# Altium integrated library Motorola Microcontroller 8-Bit.IntLib: 909 symbols (part 11 of 31)
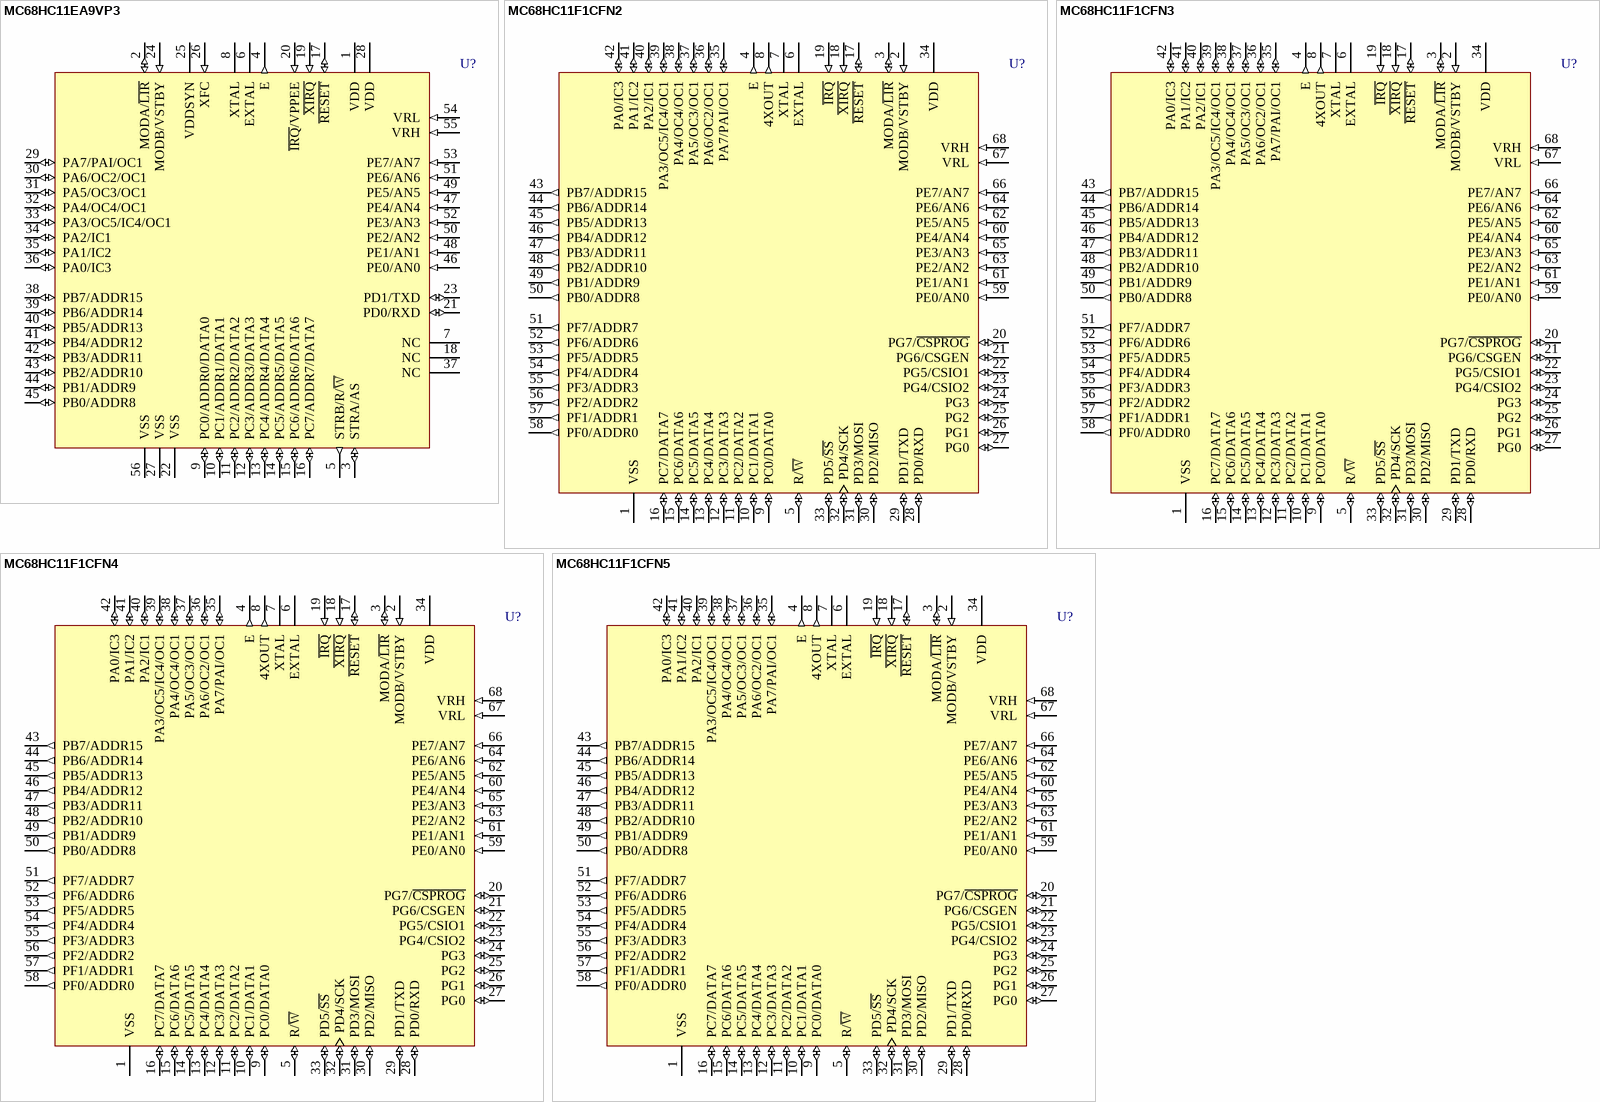
[diagram p123: symbols MC68HC11EA9VP3 to MC68HC11F1CFN5]

## MC68HC11F1CFN2
designator U?
8-Bit Microcontroller; Published: 17-Jan-2003; LatestRevisionDate: 13-Apr-2006; LatestRevisionNote: IPC-7351 Footprint Added.; DatasheetVersion: 10-Jan-1997; PackageVersion: 2001; PackageReference: 779-02; Publisher: Altium Limited; PackageDescription: 68-Pin Leaded Chip Carrier 1.27 mm Pitch; ComponentLink1Description: Manufacturer Link; ComponentLink1URL: http://www.freescale.com/
footprint 779-02_N (Leaded Chip Carrier, 68-Leads, Body 24.2x24.2mm, Pitch 1.27mm, IPC Medium Density)
footprint 779-02_L (Leaded Chip Carrier, 68-Leads, Body 24.2x24.2mm, Pitch 1.27mm, IPC High Density)
footprint 779-02_M (Leaded Chip Carrier, 68-Leads, Body 24.2x24.2mm, Pitch 1.27mm, IPC Low Density)
3D model MC68HC11-779-02 (68-Pin Leaded Chip Carrier 1.27 mm Pitch)
pins: 1 VSS (power), 2 MODB/VSTBY (in), 3 MODA/~{LIR} (io), 4 E (out), 5 R/~{W} (io), 6 EXTAL, 7 XTAL, 8 4XOUT (out), 9 PC0/DATA0 (io), 10 PC1/DATA1 (io), 11 PC2/DATA2 (io), 12 PC3/DATA3 (io), 13 PC4/DATA4 (io), 14 PC5/DATA5 (io), 15 PC6/DATA6 (io), 16 PC7/DATA7 (io), 17 ~{RESET} (io), 18 ~{XIRQ} (in), 19 ~{IRQ} (in), 20 PG7/~{CSPROG} (io), 21 PG6/CSGEN (io), 22 PG5/CSIO1 (io), 23 PG4/CSIO2 (io), 24 PG3 (io), 25 PG2 (io), 26 PG1 (io), 27 PG0 (io), 28 PD0/RXD (io), 29 PD1/TXD (io), 30 PD2/MISO (io), 31 PD3/MOSI (io), 32 PD4/SCK (io), 33 PD5/~{SS} (io), 34 VDD (power), 35 PA7/PAI/OC1 (io), 36 PA6/OC2/OC1 (io), 37 PA5/OC3/OC1 (io), 38 PA4/OC4/OC1 (io), 39 PA3/OC5/IC4/OC1 (io), 40 PA2/IC1 (io), 41 PA1/IC2 (io), 42 PA0/IC3 (io), 43 PB7/ADDR15 (out), 44 PB6/ADDR14 (out), 45 PB5/ADDR13 (out), 46 PB4/ADDR12 (out), 47 PB3/ADDR11 (out), 48 PB2/ADDR10 (out), 49 PB1/ADDR9 (out), 50 PB0/ADDR8 (out), 51 PF7/ADDR7 (out), 52 PF6/ADDR6 (out), 53 PF5/ADDR5 (out), 54 PF4/ADDR4 (out), 55 PF3/ADDR3 (out), 56 PF2/ADDR2 (out), 57 PF1/ADDR1 (out), 58 PF0/ADDR0 (out), 59 PE0/AN0 (in), 60 PE4/AN4 (in), 61 PE1/AN1 (in), 62 PE5/AN5 (in), 63 PE2/AN2 (in), 64 PE6/AN6 (in), 65 PE3/AN3 (in), 66 PE7/AN7 (in), 67 VRL (in), 68 VRH (in)

## MC68HC11F1CFN3
designator U?
8-Bit Microcontroller; Published: 17-Jan-2003; LatestRevisionDate: 13-Apr-2006; LatestRevisionNote: IPC-7351 Footprint Added.; DatasheetVersion: 10-Jan-1997; PackageVersion: 2001; PackageReference: 779-02; Publisher: Altium Limited; PackageDescription: 68-Pin Leaded Chip Carrier 1.27 mm Pitch; ComponentLink1Description: Manufacturer Link; ComponentLink1URL: http://www.freescale.com/
footprint 779-02_N (Leaded Chip Carrier, 68-Leads, Body 24.2x24.2mm, Pitch 1.27mm, IPC Medium Density)
footprint 779-02_L (Leaded Chip Carrier, 68-Leads, Body 24.2x24.2mm, Pitch 1.27mm, IPC High Density)
footprint 779-02_M (Leaded Chip Carrier, 68-Leads, Body 24.2x24.2mm, Pitch 1.27mm, IPC Low Density)
3D model MC68HC11-779-02 (68-Pin Leaded Chip Carrier 1.27 mm Pitch)
pins: 1 VSS (power), 2 MODB/VSTBY (in), 3 MODA/~{LIR} (io), 4 E (out), 5 R/~{W} (io), 6 EXTAL, 7 XTAL, 8 4XOUT (out), 9 PC0/DATA0 (io), 10 PC1/DATA1 (io), 11 PC2/DATA2 (io), 12 PC3/DATA3 (io), 13 PC4/DATA4 (io), 14 PC5/DATA5 (io), 15 PC6/DATA6 (io), 16 PC7/DATA7 (io), 17 ~{RESET} (io), 18 ~{XIRQ} (in), 19 ~{IRQ} (in), 20 PG7/~{CSPROG} (io), 21 PG6/CSGEN (io), 22 PG5/CSIO1 (io), 23 PG4/CSIO2 (io), 24 PG3 (io), 25 PG2 (io), 26 PG1 (io), 27 PG0 (io), 28 PD0/RXD (io), 29 PD1/TXD (io), 30 PD2/MISO (io), 31 PD3/MOSI (io), 32 PD4/SCK (io), 33 PD5/~{SS} (io), 34 VDD (power), 35 PA7/PAI/OC1 (io), 36 PA6/OC2/OC1 (io), 37 PA5/OC3/OC1 (io), 38 PA4/OC4/OC1 (io), 39 PA3/OC5/IC4/OC1 (io), 40 PA2/IC1 (io), 41 PA1/IC2 (io), 42 PA0/IC3 (io), 43 PB7/ADDR15 (out), 44 PB6/ADDR14 (out), 45 PB5/ADDR13 (out), 46 PB4/ADDR12 (out), 47 PB3/ADDR11 (out), 48 PB2/ADDR10 (out), 49 PB1/ADDR9 (out), 50 PB0/ADDR8 (out), 51 PF7/ADDR7 (out), 52 PF6/ADDR6 (out), 53 PF5/ADDR5 (out), 54 PF4/ADDR4 (out), 55 PF3/ADDR3 (out), 56 PF2/ADDR2 (out), 57 PF1/ADDR1 (out), 58 PF0/ADDR0 (out), 59 PE0/AN0 (in), 60 PE4/AN4 (in), 61 PE1/AN1 (in), 62 PE5/AN5 (in), 63 PE2/AN2 (in), 64 PE6/AN6 (in), 65 PE3/AN3 (in), 66 PE7/AN7 (in), 67 VRL (in), 68 VRH (in)

## MC68HC11F1CFN4
designator U?
8-Bit Microcontroller; Published: 17-Jan-2003; LatestRevisionDate: 13-Apr-2006; LatestRevisionNote: IPC-7351 Footprint Added.; DatasheetVersion: 10-Jan-1997; PackageVersion: 2001; PackageReference: 779-02; Publisher: Altium Limited; PackageDescription: 68-Pin Leaded Chip Carrier 1.27 mm Pitch; ComponentLink1Description: Manufacturer Link; ComponentLink1URL: http://www.freescale.com/
footprint 779-02_N (Leaded Chip Carrier, 68-Leads, Body 24.2x24.2mm, Pitch 1.27mm, IPC Medium Density)
footprint 779-02_L (Leaded Chip Carrier, 68-Leads, Body 24.2x24.2mm, Pitch 1.27mm, IPC High Density)
footprint 779-02_M (Leaded Chip Carrier, 68-Leads, Body 24.2x24.2mm, Pitch 1.27mm, IPC Low Density)
3D model MC68HC11-779-02 (68-Pin Leaded Chip Carrier 1.27 mm Pitch)
pins: 1 VSS (power), 2 MODB/VSTBY (in), 3 MODA/~{LIR} (io), 4 E (out), 5 R/~{W} (io), 6 EXTAL, 7 XTAL, 8 4XOUT (out), 9 PC0/DATA0 (io), 10 PC1/DATA1 (io), 11 PC2/DATA2 (io), 12 PC3/DATA3 (io), 13 PC4/DATA4 (io), 14 PC5/DATA5 (io), 15 PC6/DATA6 (io), 16 PC7/DATA7 (io), 17 ~{RESET} (io), 18 ~{XIRQ} (in), 19 ~{IRQ} (in), 20 PG7/~{CSPROG} (io), 21 PG6/CSGEN (io), 22 PG5/CSIO1 (io), 23 PG4/CSIO2 (io), 24 PG3 (io), 25 PG2 (io), 26 PG1 (io), 27 PG0 (io), 28 PD0/RXD (io), 29 PD1/TXD (io), 30 PD2/MISO (io), 31 PD3/MOSI (io), 32 PD4/SCK (io), 33 PD5/~{SS} (io), 34 VDD (power), 35 PA7/PAI/OC1 (io), 36 PA6/OC2/OC1 (io), 37 PA5/OC3/OC1 (io), 38 PA4/OC4/OC1 (io), 39 PA3/OC5/IC4/OC1 (io), 40 PA2/IC1 (io), 41 PA1/IC2 (io), 42 PA0/IC3 (io), 43 PB7/ADDR15 (out), 44 PB6/ADDR14 (out), 45 PB5/ADDR13 (out), 46 PB4/ADDR12 (out), 47 PB3/ADDR11 (out), 48 PB2/ADDR10 (out), 49 PB1/ADDR9 (out), 50 PB0/ADDR8 (out), 51 PF7/ADDR7 (out), 52 PF6/ADDR6 (out), 53 PF5/ADDR5 (out), 54 PF4/ADDR4 (out), 55 PF3/ADDR3 (out), 56 PF2/ADDR2 (out), 57 PF1/ADDR1 (out), 58 PF0/ADDR0 (out), 59 PE0/AN0 (in), 60 PE4/AN4 (in), 61 PE1/AN1 (in), 62 PE5/AN5 (in), 63 PE2/AN2 (in), 64 PE6/AN6 (in), 65 PE3/AN3 (in), 66 PE7/AN7 (in), 67 VRL (in), 68 VRH (in)

## MC68HC11F1CFN5
designator U?
8-Bit Microcontroller; Published: 17-Jan-2003; LatestRevisionDate: 13-Apr-2006; LatestRevisionNote: IPC-7351 Footprint Added.; DatasheetVersion: 10-Jan-1997; PackageVersion: 2001; PackageReference: 779-02; Publisher: Altium Limited; PackageDescription: 68-Pin Leaded Chip Carrier 1.27 mm Pitch; ComponentLink1Description: Manufacturer Link; ComponentLink1URL: http://www.freescale.com/
footprint 779-02_N (Leaded Chip Carrier, 68-Leads, Body 24.2x24.2mm, Pitch 1.27mm, IPC Medium Density)
footprint 779-02_L (Leaded Chip Carrier, 68-Leads, Body 24.2x24.2mm, Pitch 1.27mm, IPC High Density)
footprint 779-02_M (Leaded Chip Carrier, 68-Leads, Body 24.2x24.2mm, Pitch 1.27mm, IPC Low Density)
3D model MC68HC11-779-02 (68-Pin Leaded Chip Carrier 1.27 mm Pitch)
pins: 1 VSS (power), 2 MODB/VSTBY (in), 3 MODA/~{LIR} (io), 4 E (out), 5 R/~{W} (io), 6 EXTAL, 7 XTAL, 8 4XOUT (out), 9 PC0/DATA0 (io), 10 PC1/DATA1 (io), 11 PC2/DATA2 (io), 12 PC3/DATA3 (io), 13 PC4/DATA4 (io), 14 PC5/DATA5 (io), 15 PC6/DATA6 (io), 16 PC7/DATA7 (io), 17 ~{RESET} (io), 18 ~{XIRQ} (in), 19 ~{IRQ} (in), 20 PG7/~{CSPROG} (io), 21 PG6/CSGEN (io), 22 PG5/CSIO1 (io), 23 PG4/CSIO2 (io), 24 PG3 (io), 25 PG2 (io), 26 PG1 (io), 27 PG0 (io), 28 PD0/RXD (io), 29 PD1/TXD (io), 30 PD2/MISO (io), 31 PD3/MOSI (io), 32 PD4/SCK (io), 33 PD5/~{SS} (io), 34 VDD (power), 35 PA7/PAI/OC1 (io), 36 PA6/OC2/OC1 (io), 37 PA5/OC3/OC1 (io), 38 PA4/OC4/OC1 (io), 39 PA3/OC5/IC4/OC1 (io), 40 PA2/IC1 (io), 41 PA1/IC2 (io), 42 PA0/IC3 (io), 43 PB7/ADDR15 (out), 44 PB6/ADDR14 (out), 45 PB5/ADDR13 (out), 46 PB4/ADDR12 (out), 47 PB3/ADDR11 (out), 48 PB2/ADDR10 (out), 49 PB1/ADDR9 (out), 50 PB0/ADDR8 (out), 51 PF7/ADDR7 (out), 52 PF6/ADDR6 (out), 53 PF5/ADDR5 (out), 54 PF4/ADDR4 (out), 55 PF3/ADDR3 (out), 56 PF2/ADDR2 (out), 57 PF1/ADDR1 (out), 58 PF0/ADDR0 (out), 59 PE0/AN0 (in), 60 PE4/AN4 (in), 61 PE1/AN1 (in), 62 PE5/AN5 (in), 63 PE2/AN2 (in), 64 PE6/AN6 (in), 65 PE3/AN3 (in), 66 PE7/AN7 (in), 67 VRL (in), 68 VRH (in)

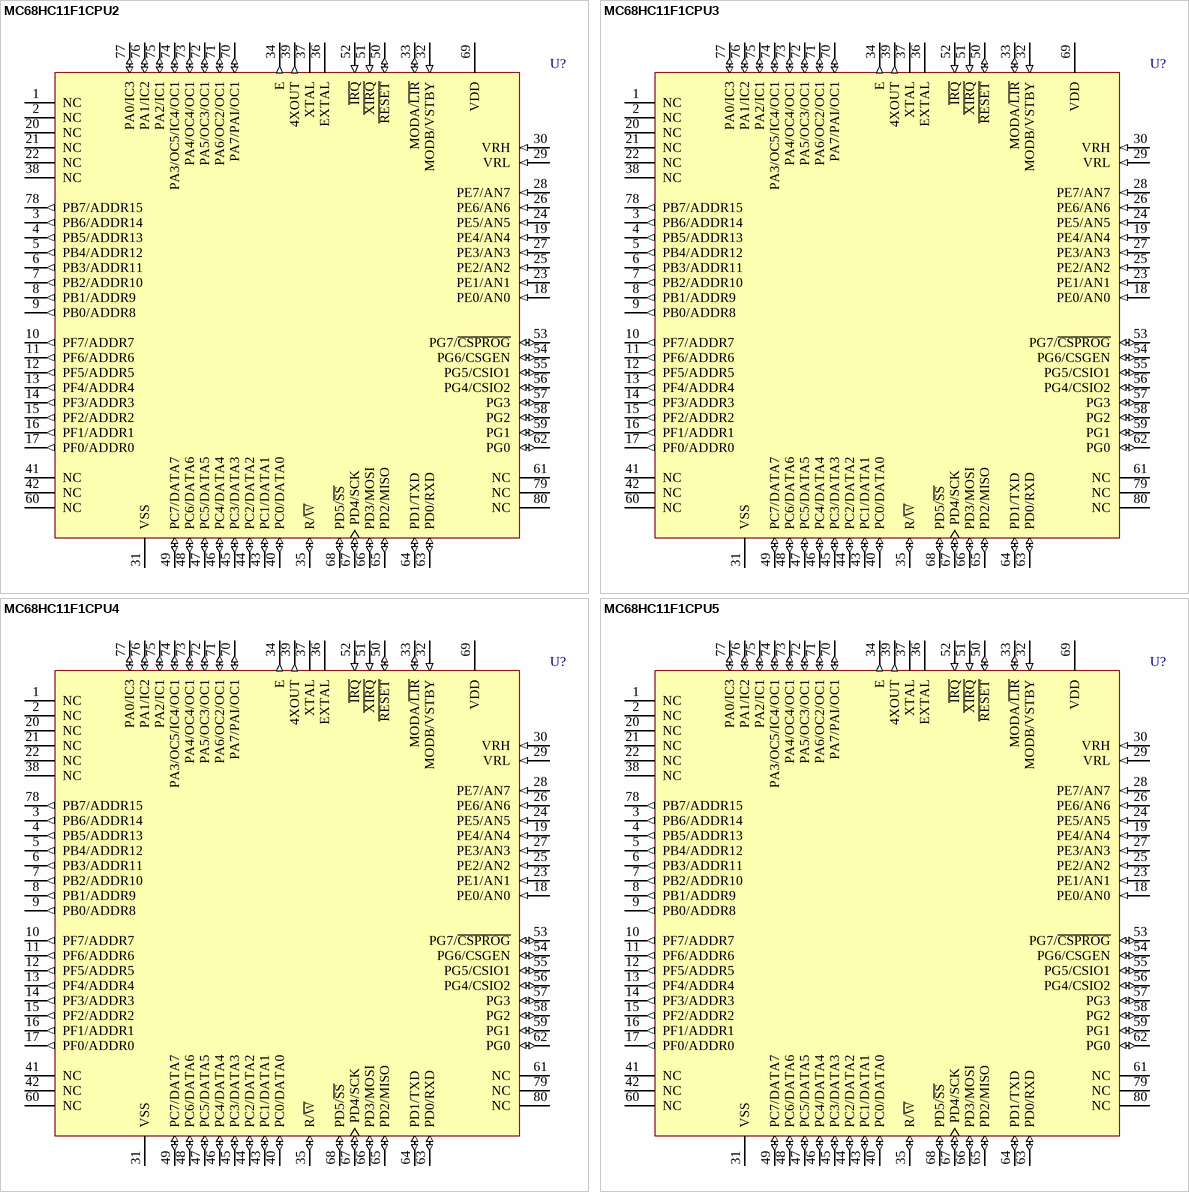
[diagram p30: symbols MC68HC11F1CPU2 to MC68HC11F1CPU5]

## MC68HC11F1CPU2
designator U?
8-Bit Microcontroller; Published: 17-Jan-2003; LatestRevisionDate: 13-Apr-2006; LatestRevisionNote: IPC-7351 Footprint Added.; DatasheetVersion: 10-Jan-1997; PackageVersion: 2000; PackageReference: 841B; Publisher: Altium Limited; PackageDescription: 80-Pin Plastic Quad Flat Pack 0.65 mm Pitch; Code_IPC: QFP65P1720X1720-80; ComponentLink1Description: Manufacturer Link; ComponentLink1URL: http://www.freescale.com/
footprint 841B_N (QFP, 80-Leads, Body 14 x 14mm, Pitch 0.65mm, IPC Medium Density)
footprint 841B_L (QFP, 80-Leads, Body 14 x 14mm, Pitch 0.65mm, IPC High Density)
footprint 841B_M (QFP, 80-Leads, Body 14 x 14mm, Pitch 0.65mm, IPC Low Density)
3D model MC68HC11-841B (80-Pin Plastic Quad Flat Pack 0.65 mm Pitch)
pins: 1 NC, 2 NC, 3 PB6/ADDR14 (out), 4 PB5/ADDR13 (out), 5 PB4/ADDR12 (out), 6 PB3/ADDR11 (out), 7 PB2/ADDR10 (out), 8 PB1/ADDR9 (out), 9 PB0/ADDR8 (out), 10 PF7/ADDR7 (out), 11 PF6/ADDR6 (out), 12 PF5/ADDR5 (out), 13 PF4/ADDR4 (out), 14 PF3/ADDR3 (out), 15 PF2/ADDR2 (out), 16 PF1/ADDR1 (out), 17 PF0/ADDR0 (out), 18 PE0/AN0 (in), 19 PE4/AN4 (in), 20 NC, 21 NC, 22 NC, 23 PE1/AN1 (in), 24 PE5/AN5 (in), 25 PE2/AN2 (in), 26 PE6/AN6 (in), 27 PE3/AN3 (in), 28 PE7/AN7 (in), 29 VRL (in), 30 VRH (in), 31 VSS (power), 32 MODB/VSTBY (in), 33 MODA/~{LIR} (io), 34 E (out), 35 R/~{W} (io), 36 EXTAL, 37 XTAL, 38 NC, 39 4XOUT (out), 40 PC0/DATA0 (io), 41 NC, 42 NC, 43 PC1/DATA1 (io), 44 PC2/DATA2 (io), 45 PC3/DATA3 (io), 46 PC4/DATA4 (io), 47 PC5/DATA5 (io), 48 PC6/DATA6 (io), 49 PC7/DATA7 (io), 50 ~{RESET} (io), 51 ~{XIRQ} (in), 52 ~{IRQ} (in), 53 PG7/~{CSPROG} (io), 54 PG6/CSGEN (io), 55 PG5/CSIO1 (io), 56 PG4/CSIO2 (io), 57 PG3 (io), 58 PG2 (io), 59 PG1 (io), 60 NC, 61 NC, 62 PG0 (io), 63 PD0/RXD (io), 64 PD1/TXD (io), 65 PD2/MISO (io), 66 PD3/MOSI (io), 67 PD4/SCK (io), 68 PD5/~{SS} (io), 69 VDD (power), 70 PA7/PAI/OC1 (io), 71 PA6/OC2/OC1 (io), 72 PA5/OC3/OC1 (io), 73 PA4/OC4/OC1 (io), 74 PA3/OC5/IC4/OC1 (io), 75 PA2/IC1 (io), 76 PA1/IC2 (io), 77 PA0/IC3 (io), 78 PB7/ADDR15 (out), 79 NC, 80 NC

## MC68HC11F1CPU3
designator U?
8-Bit Microcontroller; Published: 17-Jan-2003; LatestRevisionDate: 13-Apr-2006; LatestRevisionNote: IPC-7351 Footprint Added.; DatasheetVersion: 10-Jan-1997; PackageVersion: 2000; PackageReference: 841B; Publisher: Altium Limited; PackageDescription: 80-Pin Plastic Quad Flat Pack 0.65 mm Pitch; Code_IPC: QFP65P1720X1720-80; ComponentLink1Description: Manufacturer Link; ComponentLink1URL: http://www.freescale.com/
footprint 841B_N (QFP, 80-Leads, Body 14 x 14mm, Pitch 0.65mm, IPC Medium Density)
footprint 841B_L (QFP, 80-Leads, Body 14 x 14mm, Pitch 0.65mm, IPC High Density)
footprint 841B_M (QFP, 80-Leads, Body 14 x 14mm, Pitch 0.65mm, IPC Low Density)
3D model MC68HC11-841B (80-Pin Plastic Quad Flat Pack 0.65 mm Pitch)
pins: 1 NC, 2 NC, 3 PB6/ADDR14 (out), 4 PB5/ADDR13 (out), 5 PB4/ADDR12 (out), 6 PB3/ADDR11 (out), 7 PB2/ADDR10 (out), 8 PB1/ADDR9 (out), 9 PB0/ADDR8 (out), 10 PF7/ADDR7 (out), 11 PF6/ADDR6 (out), 12 PF5/ADDR5 (out), 13 PF4/ADDR4 (out), 14 PF3/ADDR3 (out), 15 PF2/ADDR2 (out), 16 PF1/ADDR1 (out), 17 PF0/ADDR0 (out), 18 PE0/AN0 (in), 19 PE4/AN4 (in), 20 NC, 21 NC, 22 NC, 23 PE1/AN1 (in), 24 PE5/AN5 (in), 25 PE2/AN2 (in), 26 PE6/AN6 (in), 27 PE3/AN3 (in), 28 PE7/AN7 (in), 29 VRL (in), 30 VRH (in), 31 VSS (power), 32 MODB/VSTBY (in), 33 MODA/~{LIR} (io), 34 E (out), 35 R/~{W} (io), 36 EXTAL, 37 XTAL, 38 NC, 39 4XOUT (out), 40 PC0/DATA0 (io), 41 NC, 42 NC, 43 PC1/DATA1 (io), 44 PC2/DATA2 (io), 45 PC3/DATA3 (io), 46 PC4/DATA4 (io), 47 PC5/DATA5 (io), 48 PC6/DATA6 (io), 49 PC7/DATA7 (io), 50 ~{RESET} (io), 51 ~{XIRQ} (in), 52 ~{IRQ} (in), 53 PG7/~{CSPROG} (io), 54 PG6/CSGEN (io), 55 PG5/CSIO1 (io), 56 PG4/CSIO2 (io), 57 PG3 (io), 58 PG2 (io), 59 PG1 (io), 60 NC, 61 NC, 62 PG0 (io), 63 PD0/RXD (io), 64 PD1/TXD (io), 65 PD2/MISO (io), 66 PD3/MOSI (io), 67 PD4/SCK (io), 68 PD5/~{SS} (io), 69 VDD (power), 70 PA7/PAI/OC1 (io), 71 PA6/OC2/OC1 (io), 72 PA5/OC3/OC1 (io), 73 PA4/OC4/OC1 (io), 74 PA3/OC5/IC4/OC1 (io), 75 PA2/IC1 (io), 76 PA1/IC2 (io), 77 PA0/IC3 (io), 78 PB7/ADDR15 (out), 79 NC, 80 NC

## MC68HC11F1CPU4
designator U?
8-Bit Microcontroller; Published: 17-Jan-2003; LatestRevisionDate: 13-Apr-2006; LatestRevisionNote: IPC-7351 Footprint Added.; DatasheetVersion: 10-Jan-1997; PackageVersion: 2000; PackageReference: 841B; Publisher: Altium Limited; PackageDescription: 80-Pin Plastic Quad Flat Pack 0.65 mm Pitch; Code_IPC: QFP65P1720X1720-80; ComponentLink1Description: Manufacturer Link; ComponentLink1URL: http://www.freescale.com/
footprint 841B_N (QFP, 80-Leads, Body 14 x 14mm, Pitch 0.65mm, IPC Medium Density)
footprint 841B_L (QFP, 80-Leads, Body 14 x 14mm, Pitch 0.65mm, IPC High Density)
footprint 841B_M (QFP, 80-Leads, Body 14 x 14mm, Pitch 0.65mm, IPC Low Density)
3D model MC68HC11-841B (80-Pin Plastic Quad Flat Pack 0.65 mm Pitch)
pins: 1 NC, 2 NC, 3 PB6/ADDR14 (out), 4 PB5/ADDR13 (out), 5 PB4/ADDR12 (out), 6 PB3/ADDR11 (out), 7 PB2/ADDR10 (out), 8 PB1/ADDR9 (out), 9 PB0/ADDR8 (out), 10 PF7/ADDR7 (out), 11 PF6/ADDR6 (out), 12 PF5/ADDR5 (out), 13 PF4/ADDR4 (out), 14 PF3/ADDR3 (out), 15 PF2/ADDR2 (out), 16 PF1/ADDR1 (out), 17 PF0/ADDR0 (out), 18 PE0/AN0 (in), 19 PE4/AN4 (in), 20 NC, 21 NC, 22 NC, 23 PE1/AN1 (in), 24 PE5/AN5 (in), 25 PE2/AN2 (in), 26 PE6/AN6 (in), 27 PE3/AN3 (in), 28 PE7/AN7 (in), 29 VRL (in), 30 VRH (in), 31 VSS (power), 32 MODB/VSTBY (in), 33 MODA/~{LIR} (io), 34 E (out), 35 R/~{W} (io), 36 EXTAL, 37 XTAL, 38 NC, 39 4XOUT (out), 40 PC0/DATA0 (io), 41 NC, 42 NC, 43 PC1/DATA1 (io), 44 PC2/DATA2 (io), 45 PC3/DATA3 (io), 46 PC4/DATA4 (io), 47 PC5/DATA5 (io), 48 PC6/DATA6 (io), 49 PC7/DATA7 (io), 50 ~{RESET} (io), 51 ~{XIRQ} (in), 52 ~{IRQ} (in), 53 PG7/~{CSPROG} (io), 54 PG6/CSGEN (io), 55 PG5/CSIO1 (io), 56 PG4/CSIO2 (io), 57 PG3 (io), 58 PG2 (io), 59 PG1 (io), 60 NC, 61 NC, 62 PG0 (io), 63 PD0/RXD (io), 64 PD1/TXD (io), 65 PD2/MISO (io), 66 PD3/MOSI (io), 67 PD4/SCK (io), 68 PD5/~{SS} (io), 69 VDD (power), 70 PA7/PAI/OC1 (io), 71 PA6/OC2/OC1 (io), 72 PA5/OC3/OC1 (io), 73 PA4/OC4/OC1 (io), 74 PA3/OC5/IC4/OC1 (io), 75 PA2/IC1 (io), 76 PA1/IC2 (io), 77 PA0/IC3 (io), 78 PB7/ADDR15 (out), 79 NC, 80 NC

## MC68HC11F1CPU5
designator U?
8-Bit Microcontroller; Published: 17-Jan-2003; LatestRevisionDate: 13-Apr-2006; LatestRevisionNote: IPC-7351 Footprint Added.; DatasheetVersion: 10-Jan-1997; PackageVersion: 2000; PackageReference: 841B; Publisher: Altium Limited; PackageDescription: 80-Pin Plastic Quad Flat Pack 0.65 mm Pitch; Code_IPC: QFP65P1720X1720-80; ComponentLink1Description: Manufacturer Link; ComponentLink1URL: http://www.freescale.com/
footprint 841B_N (QFP, 80-Leads, Body 14 x 14mm, Pitch 0.65mm, IPC Medium Density)
footprint 841B_L (QFP, 80-Leads, Body 14 x 14mm, Pitch 0.65mm, IPC High Density)
footprint 841B_M (QFP, 80-Leads, Body 14 x 14mm, Pitch 0.65mm, IPC Low Density)
3D model MC68HC11-841B (80-Pin Plastic Quad Flat Pack 0.65 mm Pitch)
pins: 1 NC, 2 NC, 3 PB6/ADDR14 (out), 4 PB5/ADDR13 (out), 5 PB4/ADDR12 (out), 6 PB3/ADDR11 (out), 7 PB2/ADDR10 (out), 8 PB1/ADDR9 (out), 9 PB0/ADDR8 (out), 10 PF7/ADDR7 (out), 11 PF6/ADDR6 (out), 12 PF5/ADDR5 (out), 13 PF4/ADDR4 (out), 14 PF3/ADDR3 (out), 15 PF2/ADDR2 (out), 16 PF1/ADDR1 (out), 17 PF0/ADDR0 (out), 18 PE0/AN0 (in), 19 PE4/AN4 (in), 20 NC, 21 NC, 22 NC, 23 PE1/AN1 (in), 24 PE5/AN5 (in), 25 PE2/AN2 (in), 26 PE6/AN6 (in), 27 PE3/AN3 (in), 28 PE7/AN7 (in), 29 VRL (in), 30 VRH (in), 31 VSS (power), 32 MODB/VSTBY (in), 33 MODA/~{LIR} (io), 34 E (out), 35 R/~{W} (io), 36 EXTAL, 37 XTAL, 38 NC, 39 4XOUT (out), 40 PC0/DATA0 (io), 41 NC, 42 NC, 43 PC1/DATA1 (io), 44 PC2/DATA2 (io), 45 PC3/DATA3 (io), 46 PC4/DATA4 (io), 47 PC5/DATA5 (io), 48 PC6/DATA6 (io), 49 PC7/DATA7 (io), 50 ~{RESET} (io), 51 ~{XIRQ} (in), 52 ~{IRQ} (in), 53 PG7/~{CSPROG} (io), 54 PG6/CSGEN (io), 55 PG5/CSIO1 (io), 56 PG4/CSIO2 (io), 57 PG3 (io), 58 PG2 (io), 59 PG1 (io), 60 NC, 61 NC, 62 PG0 (io), 63 PD0/RXD (io), 64 PD1/TXD (io), 65 PD2/MISO (io), 66 PD3/MOSI (io), 67 PD4/SCK (io), 68 PD5/~{SS} (io), 69 VDD (power), 70 PA7/PAI/OC1 (io), 71 PA6/OC2/OC1 (io), 72 PA5/OC3/OC1 (io), 73 PA4/OC4/OC1 (io), 74 PA3/OC5/IC4/OC1 (io), 75 PA2/IC1 (io), 76 PA1/IC2 (io), 77 PA0/IC3 (io), 78 PB7/ADDR15 (out), 79 NC, 80 NC

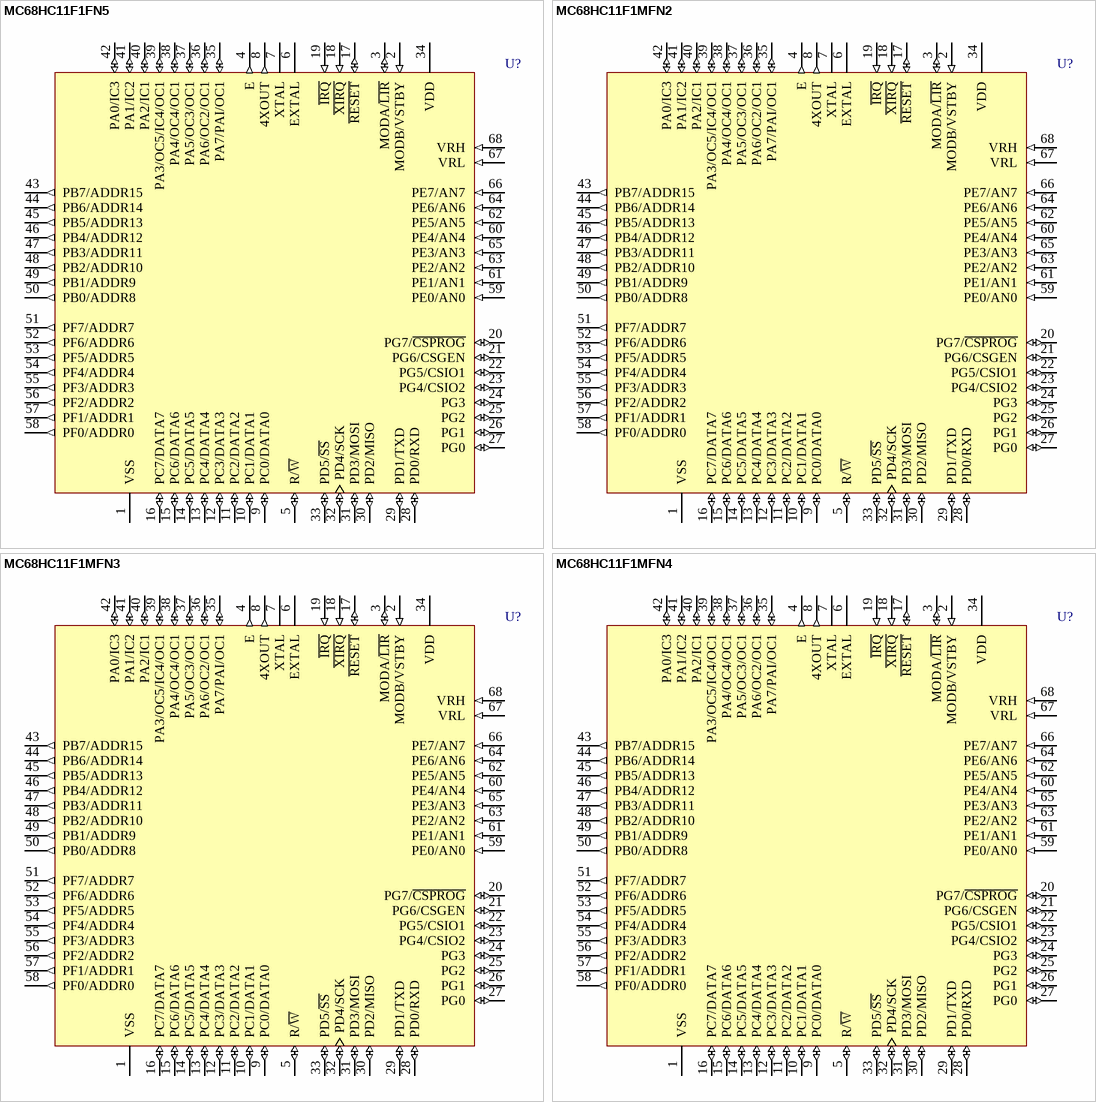
[diagram p31: symbols MC68HC11F1FN5 to MC68HC11F1MFN4]

## MC68HC11F1FN5
designator U?
8-Bit Microcontroller; Published: 17-Jan-2003; LatestRevisionDate: 13-Apr-2006; LatestRevisionNote: IPC-7351 Footprint Added.; DatasheetVersion: 10-Jan-1997; PackageVersion: 2001; PackageReference: 779-02; Publisher: Altium Limited; PackageDescription: 68-Pin Leaded Chip Carrier 1.27 mm Pitch; ComponentLink1Description: Manufacturer Link; ComponentLink1URL: http://www.freescale.com/
footprint 779-02_N (Leaded Chip Carrier, 68-Leads, Body 24.2x24.2mm, Pitch 1.27mm, IPC Medium Density)
footprint 779-02_L (Leaded Chip Carrier, 68-Leads, Body 24.2x24.2mm, Pitch 1.27mm, IPC High Density)
footprint 779-02_M (Leaded Chip Carrier, 68-Leads, Body 24.2x24.2mm, Pitch 1.27mm, IPC Low Density)
3D model MC68HC11-779-02 (68-Pin Leaded Chip Carrier 1.27 mm Pitch)
pins: 1 VSS (power), 2 MODB/VSTBY (in), 3 MODA/~{LIR} (io), 4 E (out), 5 R/~{W} (io), 6 EXTAL, 7 XTAL, 8 4XOUT (out), 9 PC0/DATA0 (io), 10 PC1/DATA1 (io), 11 PC2/DATA2 (io), 12 PC3/DATA3 (io), 13 PC4/DATA4 (io), 14 PC5/DATA5 (io), 15 PC6/DATA6 (io), 16 PC7/DATA7 (io), 17 ~{RESET} (io), 18 ~{XIRQ} (in), 19 ~{IRQ} (in), 20 PG7/~{CSPROG} (io), 21 PG6/CSGEN (io), 22 PG5/CSIO1 (io), 23 PG4/CSIO2 (io), 24 PG3 (io), 25 PG2 (io), 26 PG1 (io), 27 PG0 (io), 28 PD0/RXD (io), 29 PD1/TXD (io), 30 PD2/MISO (io), 31 PD3/MOSI (io), 32 PD4/SCK (io), 33 PD5/~{SS} (io), 34 VDD (power), 35 PA7/PAI/OC1 (io), 36 PA6/OC2/OC1 (io), 37 PA5/OC3/OC1 (io), 38 PA4/OC4/OC1 (io), 39 PA3/OC5/IC4/OC1 (io), 40 PA2/IC1 (io), 41 PA1/IC2 (io), 42 PA0/IC3 (io), 43 PB7/ADDR15 (out), 44 PB6/ADDR14 (out), 45 PB5/ADDR13 (out), 46 PB4/ADDR12 (out), 47 PB3/ADDR11 (out), 48 PB2/ADDR10 (out), 49 PB1/ADDR9 (out), 50 PB0/ADDR8 (out), 51 PF7/ADDR7 (out), 52 PF6/ADDR6 (out), 53 PF5/ADDR5 (out), 54 PF4/ADDR4 (out), 55 PF3/ADDR3 (out), 56 PF2/ADDR2 (out), 57 PF1/ADDR1 (out), 58 PF0/ADDR0 (out), 59 PE0/AN0 (in), 60 PE4/AN4 (in), 61 PE1/AN1 (in), 62 PE5/AN5 (in), 63 PE2/AN2 (in), 64 PE6/AN6 (in), 65 PE3/AN3 (in), 66 PE7/AN7 (in), 67 VRL (in), 68 VRH (in)

## MC68HC11F1MFN2
designator U?
8-Bit Microcontroller; Published: 17-Jan-2003; LatestRevisionDate: 13-Apr-2006; LatestRevisionNote: IPC-7351 Footprint Added.; DatasheetVersion: 10-Jan-1997; PackageVersion: 2001; PackageReference: 779-02; Publisher: Altium Limited; PackageDescription: 68-Pin Leaded Chip Carrier 1.27 mm Pitch; ComponentLink1Description: Manufacturer Link; ComponentLink1URL: http://www.freescale.com/
footprint 779-02_N (Leaded Chip Carrier, 68-Leads, Body 24.2x24.2mm, Pitch 1.27mm, IPC Medium Density)
footprint 779-02_L (Leaded Chip Carrier, 68-Leads, Body 24.2x24.2mm, Pitch 1.27mm, IPC High Density)
footprint 779-02_M (Leaded Chip Carrier, 68-Leads, Body 24.2x24.2mm, Pitch 1.27mm, IPC Low Density)
3D model MC68HC11-779-02 (68-Pin Leaded Chip Carrier 1.27 mm Pitch)
pins: 1 VSS (power), 2 MODB/VSTBY (in), 3 MODA/~{LIR} (io), 4 E (out), 5 R/~{W} (io), 6 EXTAL, 7 XTAL, 8 4XOUT (out), 9 PC0/DATA0 (io), 10 PC1/DATA1 (io), 11 PC2/DATA2 (io), 12 PC3/DATA3 (io), 13 PC4/DATA4 (io), 14 PC5/DATA5 (io), 15 PC6/DATA6 (io), 16 PC7/DATA7 (io), 17 ~{RESET} (io), 18 ~{XIRQ} (in), 19 ~{IRQ} (in), 20 PG7/~{CSPROG} (io), 21 PG6/CSGEN (io), 22 PG5/CSIO1 (io), 23 PG4/CSIO2 (io), 24 PG3 (io), 25 PG2 (io), 26 PG1 (io), 27 PG0 (io), 28 PD0/RXD (io), 29 PD1/TXD (io), 30 PD2/MISO (io), 31 PD3/MOSI (io), 32 PD4/SCK (io), 33 PD5/~{SS} (io), 34 VDD (power), 35 PA7/PAI/OC1 (io), 36 PA6/OC2/OC1 (io), 37 PA5/OC3/OC1 (io), 38 PA4/OC4/OC1 (io), 39 PA3/OC5/IC4/OC1 (io), 40 PA2/IC1 (io), 41 PA1/IC2 (io), 42 PA0/IC3 (io), 43 PB7/ADDR15 (out), 44 PB6/ADDR14 (out), 45 PB5/ADDR13 (out), 46 PB4/ADDR12 (out), 47 PB3/ADDR11 (out), 48 PB2/ADDR10 (out), 49 PB1/ADDR9 (out), 50 PB0/ADDR8 (out), 51 PF7/ADDR7 (out), 52 PF6/ADDR6 (out), 53 PF5/ADDR5 (out), 54 PF4/ADDR4 (out), 55 PF3/ADDR3 (out), 56 PF2/ADDR2 (out), 57 PF1/ADDR1 (out), 58 PF0/ADDR0 (out), 59 PE0/AN0 (in), 60 PE4/AN4 (in), 61 PE1/AN1 (in), 62 PE5/AN5 (in), 63 PE2/AN2 (in), 64 PE6/AN6 (in), 65 PE3/AN3 (in), 66 PE7/AN7 (in), 67 VRL (in), 68 VRH (in)

## MC68HC11F1MFN3
designator U?
8-Bit Microcontroller; Published: 17-Jan-2003; LatestRevisionDate: 13-Apr-2006; LatestRevisionNote: IPC-7351 Footprint Added.; DatasheetVersion: 10-Jan-1997; PackageVersion: 2001; PackageReference: 779-02; Publisher: Altium Limited; PackageDescription: 68-Pin Leaded Chip Carrier 1.27 mm Pitch; ComponentLink1Description: Manufacturer Link; ComponentLink1URL: http://www.freescale.com/
footprint 779-02_N (Leaded Chip Carrier, 68-Leads, Body 24.2x24.2mm, Pitch 1.27mm, IPC Medium Density)
footprint 779-02_L (Leaded Chip Carrier, 68-Leads, Body 24.2x24.2mm, Pitch 1.27mm, IPC High Density)
footprint 779-02_M (Leaded Chip Carrier, 68-Leads, Body 24.2x24.2mm, Pitch 1.27mm, IPC Low Density)
3D model MC68HC11-779-02 (68-Pin Leaded Chip Carrier 1.27 mm Pitch)
pins: 1 VSS (power), 2 MODB/VSTBY (in), 3 MODA/~{LIR} (io), 4 E (out), 5 R/~{W} (io), 6 EXTAL, 7 XTAL, 8 4XOUT (out), 9 PC0/DATA0 (io), 10 PC1/DATA1 (io), 11 PC2/DATA2 (io), 12 PC3/DATA3 (io), 13 PC4/DATA4 (io), 14 PC5/DATA5 (io), 15 PC6/DATA6 (io), 16 PC7/DATA7 (io), 17 ~{RESET} (io), 18 ~{XIRQ} (in), 19 ~{IRQ} (in), 20 PG7/~{CSPROG} (io), 21 PG6/CSGEN (io), 22 PG5/CSIO1 (io), 23 PG4/CSIO2 (io), 24 PG3 (io), 25 PG2 (io), 26 PG1 (io), 27 PG0 (io), 28 PD0/RXD (io), 29 PD1/TXD (io), 30 PD2/MISO (io), 31 PD3/MOSI (io), 32 PD4/SCK (io), 33 PD5/~{SS} (io), 34 VDD (power), 35 PA7/PAI/OC1 (io), 36 PA6/OC2/OC1 (io), 37 PA5/OC3/OC1 (io), 38 PA4/OC4/OC1 (io), 39 PA3/OC5/IC4/OC1 (io), 40 PA2/IC1 (io), 41 PA1/IC2 (io), 42 PA0/IC3 (io), 43 PB7/ADDR15 (out), 44 PB6/ADDR14 (out), 45 PB5/ADDR13 (out), 46 PB4/ADDR12 (out), 47 PB3/ADDR11 (out), 48 PB2/ADDR10 (out), 49 PB1/ADDR9 (out), 50 PB0/ADDR8 (out), 51 PF7/ADDR7 (out), 52 PF6/ADDR6 (out), 53 PF5/ADDR5 (out), 54 PF4/ADDR4 (out), 55 PF3/ADDR3 (out), 56 PF2/ADDR2 (out), 57 PF1/ADDR1 (out), 58 PF0/ADDR0 (out), 59 PE0/AN0 (in), 60 PE4/AN4 (in), 61 PE1/AN1 (in), 62 PE5/AN5 (in), 63 PE2/AN2 (in), 64 PE6/AN6 (in), 65 PE3/AN3 (in), 66 PE7/AN7 (in), 67 VRL (in), 68 VRH (in)

## MC68HC11F1MFN4
designator U?
8-Bit Microcontroller; Published: 17-Jan-2003; LatestRevisionDate: 13-Apr-2006; LatestRevisionNote: IPC-7351 Footprint Added.; DatasheetVersion: 10-Jan-1997; PackageVersion: 2001; PackageReference: 779-02; Publisher: Altium Limited; PackageDescription: 68-Pin Leaded Chip Carrier 1.27 mm Pitch; ComponentLink1Description: Manufacturer Link; ComponentLink1URL: http://www.freescale.com/
footprint 779-02_N (Leaded Chip Carrier, 68-Leads, Body 24.2x24.2mm, Pitch 1.27mm, IPC Medium Density)
footprint 779-02_L (Leaded Chip Carrier, 68-Leads, Body 24.2x24.2mm, Pitch 1.27mm, IPC High Density)
footprint 779-02_M (Leaded Chip Carrier, 68-Leads, Body 24.2x24.2mm, Pitch 1.27mm, IPC Low Density)
3D model MC68HC11-779-02 (68-Pin Leaded Chip Carrier 1.27 mm Pitch)
pins: 1 VSS (power), 2 MODB/VSTBY (in), 3 MODA/~{LIR} (io), 4 E (out), 5 R/~{W} (io), 6 EXTAL, 7 XTAL, 8 4XOUT (out), 9 PC0/DATA0 (io), 10 PC1/DATA1 (io), 11 PC2/DATA2 (io), 12 PC3/DATA3 (io), 13 PC4/DATA4 (io), 14 PC5/DATA5 (io), 15 PC6/DATA6 (io), 16 PC7/DATA7 (io), 17 ~{RESET} (io), 18 ~{XIRQ} (in), 19 ~{IRQ} (in), 20 PG7/~{CSPROG} (io), 21 PG6/CSGEN (io), 22 PG5/CSIO1 (io), 23 PG4/CSIO2 (io), 24 PG3 (io), 25 PG2 (io), 26 PG1 (io), 27 PG0 (io), 28 PD0/RXD (io), 29 PD1/TXD (io), 30 PD2/MISO (io), 31 PD3/MOSI (io), 32 PD4/SCK (io), 33 PD5/~{SS} (io), 34 VDD (power), 35 PA7/PAI/OC1 (io), 36 PA6/OC2/OC1 (io), 37 PA5/OC3/OC1 (io), 38 PA4/OC4/OC1 (io), 39 PA3/OC5/IC4/OC1 (io), 40 PA2/IC1 (io), 41 PA1/IC2 (io), 42 PA0/IC3 (io), 43 PB7/ADDR15 (out), 44 PB6/ADDR14 (out), 45 PB5/ADDR13 (out), 46 PB4/ADDR12 (out), 47 PB3/ADDR11 (out), 48 PB2/ADDR10 (out), 49 PB1/ADDR9 (out), 50 PB0/ADDR8 (out), 51 PF7/ADDR7 (out), 52 PF6/ADDR6 (out), 53 PF5/ADDR5 (out), 54 PF4/ADDR4 (out), 55 PF3/ADDR3 (out), 56 PF2/ADDR2 (out), 57 PF1/ADDR1 (out), 58 PF0/ADDR0 (out), 59 PE0/AN0 (in), 60 PE4/AN4 (in), 61 PE1/AN1 (in), 62 PE5/AN5 (in), 63 PE2/AN2 (in), 64 PE6/AN6 (in), 65 PE3/AN3 (in), 66 PE7/AN7 (in), 67 VRL (in), 68 VRH (in)

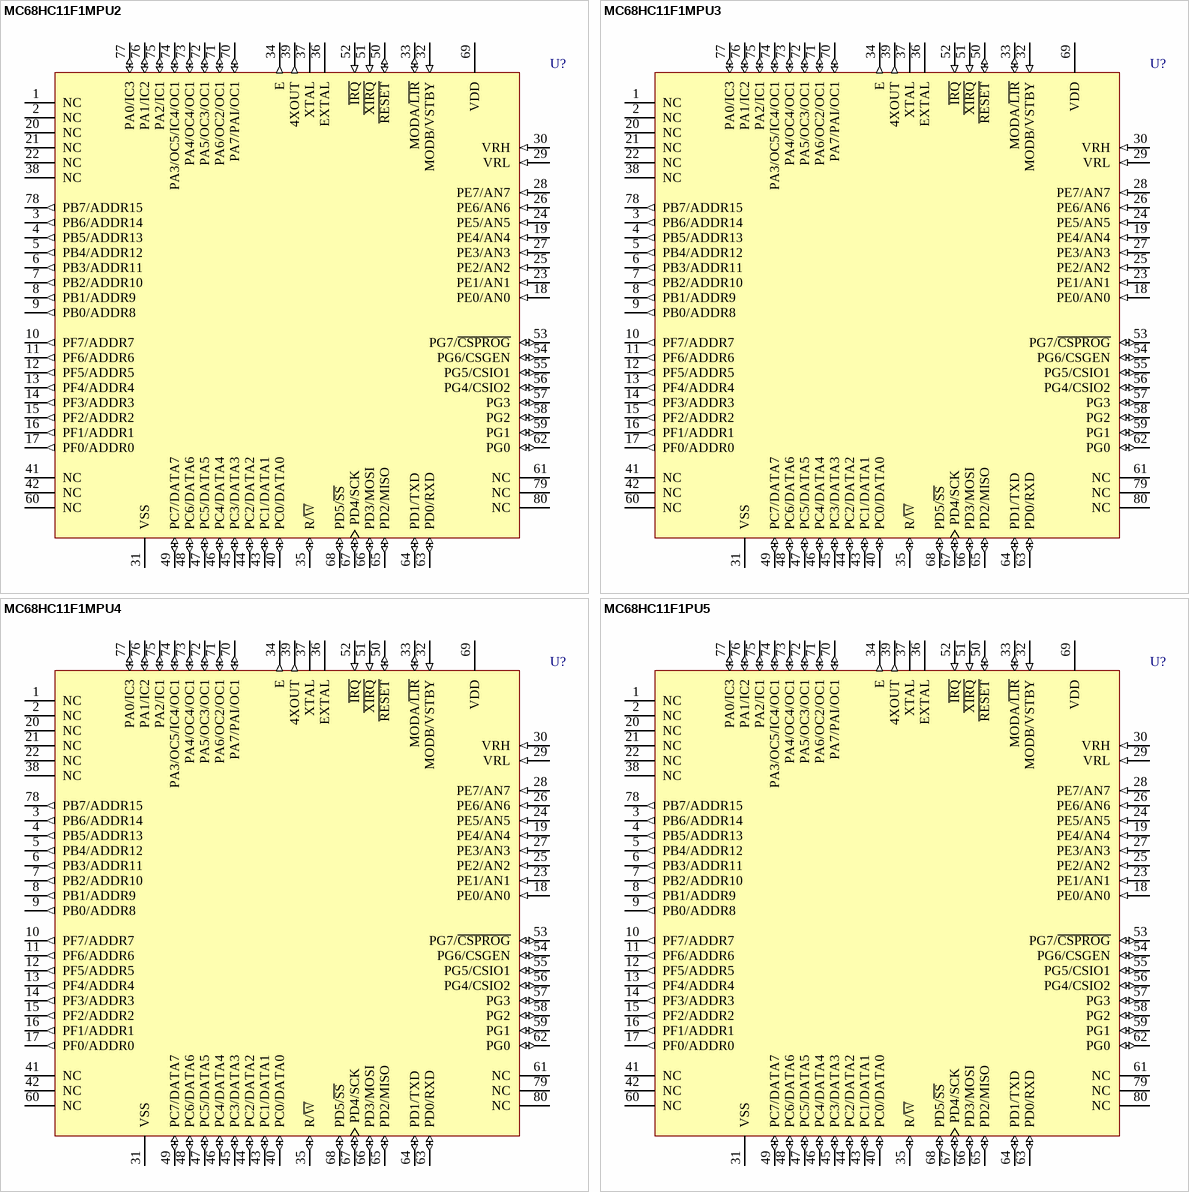
[diagram p32: symbols MC68HC11F1MPU2 to MC68HC11F1PU5]

## MC68HC11F1MPU2
designator U?
8-Bit Microcontroller; Published: 17-Jan-2003; LatestRevisionDate: 13-Apr-2006; LatestRevisionNote: IPC-7351 Footprint Added.; DatasheetVersion: 10-Jan-1997; PackageVersion: 2000; PackageReference: 841B; Publisher: Altium Limited; PackageDescription: 80-Pin Plastic Quad Flat Pack 0.65 mm Pitch; Code_IPC: QFP65P1720X1720-80; ComponentLink1Description: Manufacturer Link; ComponentLink1URL: http://www.freescale.com/
footprint 841B_N (QFP, 80-Leads, Body 14 x 14mm, Pitch 0.65mm, IPC Medium Density)
footprint 841B_L (QFP, 80-Leads, Body 14 x 14mm, Pitch 0.65mm, IPC High Density)
footprint 841B_M (QFP, 80-Leads, Body 14 x 14mm, Pitch 0.65mm, IPC Low Density)
3D model MC68HC11-841B (80-Pin Plastic Quad Flat Pack 0.65 mm Pitch)
pins: 1 NC, 2 NC, 3 PB6/ADDR14 (out), 4 PB5/ADDR13 (out), 5 PB4/ADDR12 (out), 6 PB3/ADDR11 (out), 7 PB2/ADDR10 (out), 8 PB1/ADDR9 (out), 9 PB0/ADDR8 (out), 10 PF7/ADDR7 (out), 11 PF6/ADDR6 (out), 12 PF5/ADDR5 (out), 13 PF4/ADDR4 (out), 14 PF3/ADDR3 (out), 15 PF2/ADDR2 (out), 16 PF1/ADDR1 (out), 17 PF0/ADDR0 (out), 18 PE0/AN0 (in), 19 PE4/AN4 (in), 20 NC, 21 NC, 22 NC, 23 PE1/AN1 (in), 24 PE5/AN5 (in), 25 PE2/AN2 (in), 26 PE6/AN6 (in), 27 PE3/AN3 (in), 28 PE7/AN7 (in), 29 VRL (in), 30 VRH (in), 31 VSS (power), 32 MODB/VSTBY (in), 33 MODA/~{LIR} (io), 34 E (out), 35 R/~{W} (io), 36 EXTAL, 37 XTAL, 38 NC, 39 4XOUT (out), 40 PC0/DATA0 (io), 41 NC, 42 NC, 43 PC1/DATA1 (io), 44 PC2/DATA2 (io), 45 PC3/DATA3 (io), 46 PC4/DATA4 (io), 47 PC5/DATA5 (io), 48 PC6/DATA6 (io), 49 PC7/DATA7 (io), 50 ~{RESET} (io), 51 ~{XIRQ} (in), 52 ~{IRQ} (in), 53 PG7/~{CSPROG} (io), 54 PG6/CSGEN (io), 55 PG5/CSIO1 (io), 56 PG4/CSIO2 (io), 57 PG3 (io), 58 PG2 (io), 59 PG1 (io), 60 NC, 61 NC, 62 PG0 (io), 63 PD0/RXD (io), 64 PD1/TXD (io), 65 PD2/MISO (io), 66 PD3/MOSI (io), 67 PD4/SCK (io), 68 PD5/~{SS} (io), 69 VDD (power), 70 PA7/PAI/OC1 (io), 71 PA6/OC2/OC1 (io), 72 PA5/OC3/OC1 (io), 73 PA4/OC4/OC1 (io), 74 PA3/OC5/IC4/OC1 (io), 75 PA2/IC1 (io), 76 PA1/IC2 (io), 77 PA0/IC3 (io), 78 PB7/ADDR15 (out), 79 NC, 80 NC

## MC68HC11F1MPU3
designator U?
8-Bit Microcontroller; Published: 17-Jan-2003; LatestRevisionDate: 13-Apr-2006; LatestRevisionNote: IPC-7351 Footprint Added.; DatasheetVersion: 10-Jan-1997; PackageVersion: 2000; PackageReference: 841B; Publisher: Altium Limited; PackageDescription: 80-Pin Plastic Quad Flat Pack 0.65 mm Pitch; Code_IPC: QFP65P1720X1720-80; ComponentLink1Description: Manufacturer Link; ComponentLink1URL: http://www.freescale.com/
footprint 841B_N (QFP, 80-Leads, Body 14 x 14mm, Pitch 0.65mm, IPC Medium Density)
footprint 841B_L (QFP, 80-Leads, Body 14 x 14mm, Pitch 0.65mm, IPC High Density)
footprint 841B_M (QFP, 80-Leads, Body 14 x 14mm, Pitch 0.65mm, IPC Low Density)
3D model MC68HC11-841B (80-Pin Plastic Quad Flat Pack 0.65 mm Pitch)
pins: 1 NC, 2 NC, 3 PB6/ADDR14 (out), 4 PB5/ADDR13 (out), 5 PB4/ADDR12 (out), 6 PB3/ADDR11 (out), 7 PB2/ADDR10 (out), 8 PB1/ADDR9 (out), 9 PB0/ADDR8 (out), 10 PF7/ADDR7 (out), 11 PF6/ADDR6 (out), 12 PF5/ADDR5 (out), 13 PF4/ADDR4 (out), 14 PF3/ADDR3 (out), 15 PF2/ADDR2 (out), 16 PF1/ADDR1 (out), 17 PF0/ADDR0 (out), 18 PE0/AN0 (in), 19 PE4/AN4 (in), 20 NC, 21 NC, 22 NC, 23 PE1/AN1 (in), 24 PE5/AN5 (in), 25 PE2/AN2 (in), 26 PE6/AN6 (in), 27 PE3/AN3 (in), 28 PE7/AN7 (in), 29 VRL (in), 30 VRH (in), 31 VSS (power), 32 MODB/VSTBY (in), 33 MODA/~{LIR} (io), 34 E (out), 35 R/~{W} (io), 36 EXTAL, 37 XTAL, 38 NC, 39 4XOUT (out), 40 PC0/DATA0 (io), 41 NC, 42 NC, 43 PC1/DATA1 (io), 44 PC2/DATA2 (io), 45 PC3/DATA3 (io), 46 PC4/DATA4 (io), 47 PC5/DATA5 (io), 48 PC6/DATA6 (io), 49 PC7/DATA7 (io), 50 ~{RESET} (io), 51 ~{XIRQ} (in), 52 ~{IRQ} (in), 53 PG7/~{CSPROG} (io), 54 PG6/CSGEN (io), 55 PG5/CSIO1 (io), 56 PG4/CSIO2 (io), 57 PG3 (io), 58 PG2 (io), 59 PG1 (io), 60 NC, 61 NC, 62 PG0 (io), 63 PD0/RXD (io), 64 PD1/TXD (io), 65 PD2/MISO (io), 66 PD3/MOSI (io), 67 PD4/SCK (io), 68 PD5/~{SS} (io), 69 VDD (power), 70 PA7/PAI/OC1 (io), 71 PA6/OC2/OC1 (io), 72 PA5/OC3/OC1 (io), 73 PA4/OC4/OC1 (io), 74 PA3/OC5/IC4/OC1 (io), 75 PA2/IC1 (io), 76 PA1/IC2 (io), 77 PA0/IC3 (io), 78 PB7/ADDR15 (out), 79 NC, 80 NC

## MC68HC11F1MPU4
designator U?
8-Bit Microcontroller; Published: 17-Jan-2003; LatestRevisionDate: 13-Apr-2006; LatestRevisionNote: IPC-7351 Footprint Added.; DatasheetVersion: 10-Jan-1997; PackageVersion: 2000; PackageReference: 841B; Publisher: Altium Limited; PackageDescription: 80-Pin Plastic Quad Flat Pack 0.65 mm Pitch; Code_IPC: QFP65P1720X1720-80; ComponentLink1Description: Manufacturer Link; ComponentLink1URL: http://www.freescale.com/
footprint 841B_N (QFP, 80-Leads, Body 14 x 14mm, Pitch 0.65mm, IPC Medium Density)
footprint 841B_L (QFP, 80-Leads, Body 14 x 14mm, Pitch 0.65mm, IPC High Density)
footprint 841B_M (QFP, 80-Leads, Body 14 x 14mm, Pitch 0.65mm, IPC Low Density)
3D model MC68HC11-841B (80-Pin Plastic Quad Flat Pack 0.65 mm Pitch)
pins: 1 NC, 2 NC, 3 PB6/ADDR14 (out), 4 PB5/ADDR13 (out), 5 PB4/ADDR12 (out), 6 PB3/ADDR11 (out), 7 PB2/ADDR10 (out), 8 PB1/ADDR9 (out), 9 PB0/ADDR8 (out), 10 PF7/ADDR7 (out), 11 PF6/ADDR6 (out), 12 PF5/ADDR5 (out), 13 PF4/ADDR4 (out), 14 PF3/ADDR3 (out), 15 PF2/ADDR2 (out), 16 PF1/ADDR1 (out), 17 PF0/ADDR0 (out), 18 PE0/AN0 (in), 19 PE4/AN4 (in), 20 NC, 21 NC, 22 NC, 23 PE1/AN1 (in), 24 PE5/AN5 (in), 25 PE2/AN2 (in), 26 PE6/AN6 (in), 27 PE3/AN3 (in), 28 PE7/AN7 (in), 29 VRL (in), 30 VRH (in), 31 VSS (power), 32 MODB/VSTBY (in), 33 MODA/~{LIR} (io), 34 E (out), 35 R/~{W} (io), 36 EXTAL, 37 XTAL, 38 NC, 39 4XOUT (out), 40 PC0/DATA0 (io), 41 NC, 42 NC, 43 PC1/DATA1 (io), 44 PC2/DATA2 (io), 45 PC3/DATA3 (io), 46 PC4/DATA4 (io), 47 PC5/DATA5 (io), 48 PC6/DATA6 (io), 49 PC7/DATA7 (io), 50 ~{RESET} (io), 51 ~{XIRQ} (in), 52 ~{IRQ} (in), 53 PG7/~{CSPROG} (io), 54 PG6/CSGEN (io), 55 PG5/CSIO1 (io), 56 PG4/CSIO2 (io), 57 PG3 (io), 58 PG2 (io), 59 PG1 (io), 60 NC, 61 NC, 62 PG0 (io), 63 PD0/RXD (io), 64 PD1/TXD (io), 65 PD2/MISO (io), 66 PD3/MOSI (io), 67 PD4/SCK (io), 68 PD5/~{SS} (io), 69 VDD (power), 70 PA7/PAI/OC1 (io), 71 PA6/OC2/OC1 (io), 72 PA5/OC3/OC1 (io), 73 PA4/OC4/OC1 (io), 74 PA3/OC5/IC4/OC1 (io), 75 PA2/IC1 (io), 76 PA1/IC2 (io), 77 PA0/IC3 (io), 78 PB7/ADDR15 (out), 79 NC, 80 NC

## MC68HC11F1PU5
designator U?
8-Bit Microcontroller; Published: 17-Jan-2003; LatestRevisionDate: 13-Apr-2006; LatestRevisionNote: IPC-7351 Footprint Added.; DatasheetVersion: 10-Jan-1997; PackageVersion: 2000; PackageReference: 841B; Publisher: Altium Limited; PackageDescription: 80-Pin Plastic Quad Flat Pack 0.65 mm Pitch; Code_IPC: QFP65P1720X1720-80; ComponentLink1Description: Manufacturer Link; ComponentLink1URL: http://www.freescale.com/
footprint 841B_N (QFP, 80-Leads, Body 14 x 14mm, Pitch 0.65mm, IPC Medium Density)
footprint 841B_L (QFP, 80-Leads, Body 14 x 14mm, Pitch 0.65mm, IPC High Density)
footprint 841B_M (QFP, 80-Leads, Body 14 x 14mm, Pitch 0.65mm, IPC Low Density)
3D model MC68HC11-841B (80-Pin Plastic Quad Flat Pack 0.65 mm Pitch)
pins: 1 NC, 2 NC, 3 PB6/ADDR14 (out), 4 PB5/ADDR13 (out), 5 PB4/ADDR12 (out), 6 PB3/ADDR11 (out), 7 PB2/ADDR10 (out), 8 PB1/ADDR9 (out), 9 PB0/ADDR8 (out), 10 PF7/ADDR7 (out), 11 PF6/ADDR6 (out), 12 PF5/ADDR5 (out), 13 PF4/ADDR4 (out), 14 PF3/ADDR3 (out), 15 PF2/ADDR2 (out), 16 PF1/ADDR1 (out), 17 PF0/ADDR0 (out), 18 PE0/AN0 (in), 19 PE4/AN4 (in), 20 NC, 21 NC, 22 NC, 23 PE1/AN1 (in), 24 PE5/AN5 (in), 25 PE2/AN2 (in), 26 PE6/AN6 (in), 27 PE3/AN3 (in), 28 PE7/AN7 (in), 29 VRL (in), 30 VRH (in), 31 VSS (power), 32 MODB/VSTBY (in), 33 MODA/~{LIR} (io), 34 E (out), 35 R/~{W} (io), 36 EXTAL, 37 XTAL, 38 NC, 39 4XOUT (out), 40 PC0/DATA0 (io), 41 NC, 42 NC, 43 PC1/DATA1 (io), 44 PC2/DATA2 (io), 45 PC3/DATA3 (io), 46 PC4/DATA4 (io), 47 PC5/DATA5 (io), 48 PC6/DATA6 (io), 49 PC7/DATA7 (io), 50 ~{RESET} (io), 51 ~{XIRQ} (in), 52 ~{IRQ} (in), 53 PG7/~{CSPROG} (io), 54 PG6/CSGEN (io), 55 PG5/CSIO1 (io), 56 PG4/CSIO2 (io), 57 PG3 (io), 58 PG2 (io), 59 PG1 (io), 60 NC, 61 NC, 62 PG0 (io), 63 PD0/RXD (io), 64 PD1/TXD (io), 65 PD2/MISO (io), 66 PD3/MOSI (io), 67 PD4/SCK (io), 68 PD5/~{SS} (io), 69 VDD (power), 70 PA7/PAI/OC1 (io), 71 PA6/OC2/OC1 (io), 72 PA5/OC3/OC1 (io), 73 PA4/OC4/OC1 (io), 74 PA3/OC5/IC4/OC1 (io), 75 PA2/IC1 (io), 76 PA1/IC2 (io), 77 PA0/IC3 (io), 78 PB7/ADDR15 (out), 79 NC, 80 NC

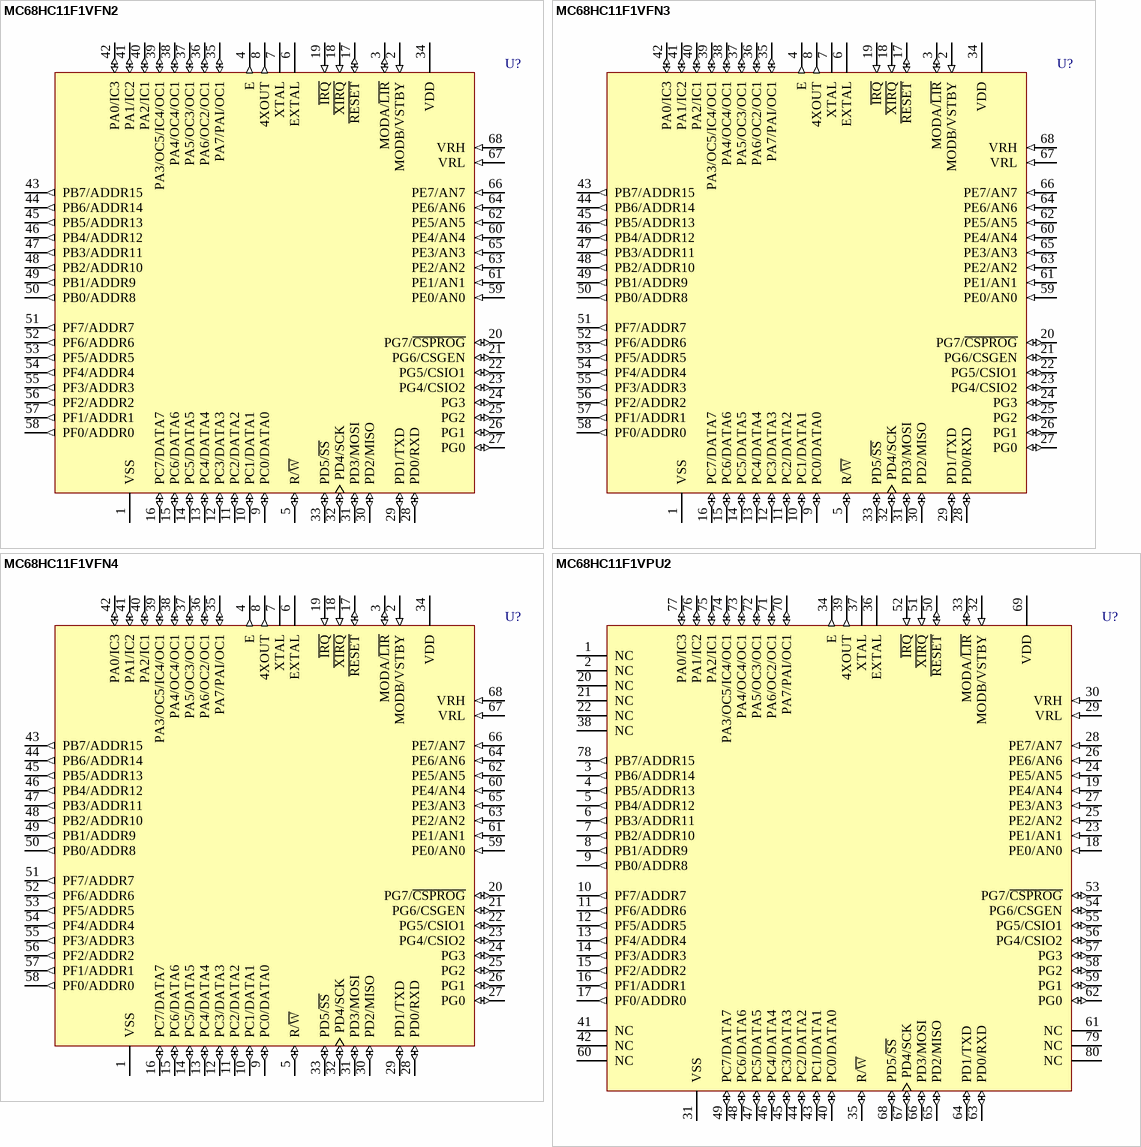
[diagram p33: symbols MC68HC11F1VFN2 to MC68HC11F1VPU2]

## MC68HC11F1VFN2
designator U?
8-Bit Microcontroller; Published: 17-Jan-2003; LatestRevisionDate: 13-Apr-2006; LatestRevisionNote: IPC-7351 Footprint Added.; DatasheetVersion: 10-Jan-1997; PackageVersion: 2001; PackageReference: 779-02; Publisher: Altium Limited; PackageDescription: 68-Pin Leaded Chip Carrier 1.27 mm Pitch; ComponentLink1Description: Manufacturer Link; ComponentLink1URL: http://www.freescale.com/
footprint 779-02_N (Leaded Chip Carrier, 68-Leads, Body 24.2x24.2mm, Pitch 1.27mm, IPC Medium Density)
footprint 779-02_L (Leaded Chip Carrier, 68-Leads, Body 24.2x24.2mm, Pitch 1.27mm, IPC High Density)
footprint 779-02_M (Leaded Chip Carrier, 68-Leads, Body 24.2x24.2mm, Pitch 1.27mm, IPC Low Density)
3D model MC68HC11-779-02 (68-Pin Leaded Chip Carrier 1.27 mm Pitch)
pins: 1 VSS (power), 2 MODB/VSTBY (in), 3 MODA/~{LIR} (io), 4 E (out), 5 R/~{W} (io), 6 EXTAL, 7 XTAL, 8 4XOUT (out), 9 PC0/DATA0 (io), 10 PC1/DATA1 (io), 11 PC2/DATA2 (io), 12 PC3/DATA3 (io), 13 PC4/DATA4 (io), 14 PC5/DATA5 (io), 15 PC6/DATA6 (io), 16 PC7/DATA7 (io), 17 ~{RESET} (io), 18 ~{XIRQ} (in), 19 ~{IRQ} (in), 20 PG7/~{CSPROG} (io), 21 PG6/CSGEN (io), 22 PG5/CSIO1 (io), 23 PG4/CSIO2 (io), 24 PG3 (io), 25 PG2 (io), 26 PG1 (io), 27 PG0 (io), 28 PD0/RXD (io), 29 PD1/TXD (io), 30 PD2/MISO (io), 31 PD3/MOSI (io), 32 PD4/SCK (io), 33 PD5/~{SS} (io), 34 VDD (power), 35 PA7/PAI/OC1 (io), 36 PA6/OC2/OC1 (io), 37 PA5/OC3/OC1 (io), 38 PA4/OC4/OC1 (io), 39 PA3/OC5/IC4/OC1 (io), 40 PA2/IC1 (io), 41 PA1/IC2 (io), 42 PA0/IC3 (io), 43 PB7/ADDR15 (out), 44 PB6/ADDR14 (out), 45 PB5/ADDR13 (out), 46 PB4/ADDR12 (out), 47 PB3/ADDR11 (out), 48 PB2/ADDR10 (out), 49 PB1/ADDR9 (out), 50 PB0/ADDR8 (out), 51 PF7/ADDR7 (out), 52 PF6/ADDR6 (out), 53 PF5/ADDR5 (out), 54 PF4/ADDR4 (out), 55 PF3/ADDR3 (out), 56 PF2/ADDR2 (out), 57 PF1/ADDR1 (out), 58 PF0/ADDR0 (out), 59 PE0/AN0 (in), 60 PE4/AN4 (in), 61 PE1/AN1 (in), 62 PE5/AN5 (in), 63 PE2/AN2 (in), 64 PE6/AN6 (in), 65 PE3/AN3 (in), 66 PE7/AN7 (in), 67 VRL (in), 68 VRH (in)

## MC68HC11F1VFN3
designator U?
8-Bit Microcontroller; Published: 17-Jan-2003; LatestRevisionDate: 13-Apr-2006; LatestRevisionNote: IPC-7351 Footprint Added.; DatasheetVersion: 10-Jan-1997; PackageVersion: 2001; PackageReference: 779-02; Publisher: Altium Limited; PackageDescription: 68-Pin Leaded Chip Carrier 1.27 mm Pitch; ComponentLink1Description: Manufacturer Link; ComponentLink1URL: http://www.freescale.com/
footprint 779-02_N (Leaded Chip Carrier, 68-Leads, Body 24.2x24.2mm, Pitch 1.27mm, IPC Medium Density)
footprint 779-02_L (Leaded Chip Carrier, 68-Leads, Body 24.2x24.2mm, Pitch 1.27mm, IPC High Density)
footprint 779-02_M (Leaded Chip Carrier, 68-Leads, Body 24.2x24.2mm, Pitch 1.27mm, IPC Low Density)
3D model MC68HC11-779-02 (68-Pin Leaded Chip Carrier 1.27 mm Pitch)
pins: 1 VSS (power), 2 MODB/VSTBY (in), 3 MODA/~{LIR} (io), 4 E (out), 5 R/~{W} (io), 6 EXTAL, 7 XTAL, 8 4XOUT (out), 9 PC0/DATA0 (io), 10 PC1/DATA1 (io), 11 PC2/DATA2 (io), 12 PC3/DATA3 (io), 13 PC4/DATA4 (io), 14 PC5/DATA5 (io), 15 PC6/DATA6 (io), 16 PC7/DATA7 (io), 17 ~{RESET} (io), 18 ~{XIRQ} (in), 19 ~{IRQ} (in), 20 PG7/~{CSPROG} (io), 21 PG6/CSGEN (io), 22 PG5/CSIO1 (io), 23 PG4/CSIO2 (io), 24 PG3 (io), 25 PG2 (io), 26 PG1 (io), 27 PG0 (io), 28 PD0/RXD (io), 29 PD1/TXD (io), 30 PD2/MISO (io), 31 PD3/MOSI (io), 32 PD4/SCK (io), 33 PD5/~{SS} (io), 34 VDD (power), 35 PA7/PAI/OC1 (io), 36 PA6/OC2/OC1 (io), 37 PA5/OC3/OC1 (io), 38 PA4/OC4/OC1 (io), 39 PA3/OC5/IC4/OC1 (io), 40 PA2/IC1 (io), 41 PA1/IC2 (io), 42 PA0/IC3 (io), 43 PB7/ADDR15 (out), 44 PB6/ADDR14 (out), 45 PB5/ADDR13 (out), 46 PB4/ADDR12 (out), 47 PB3/ADDR11 (out), 48 PB2/ADDR10 (out), 49 PB1/ADDR9 (out), 50 PB0/ADDR8 (out), 51 PF7/ADDR7 (out), 52 PF6/ADDR6 (out), 53 PF5/ADDR5 (out), 54 PF4/ADDR4 (out), 55 PF3/ADDR3 (out), 56 PF2/ADDR2 (out), 57 PF1/ADDR1 (out), 58 PF0/ADDR0 (out), 59 PE0/AN0 (in), 60 PE4/AN4 (in), 61 PE1/AN1 (in), 62 PE5/AN5 (in), 63 PE2/AN2 (in), 64 PE6/AN6 (in), 65 PE3/AN3 (in), 66 PE7/AN7 (in), 67 VRL (in), 68 VRH (in)

## MC68HC11F1VFN4
designator U?
8-Bit Microcontroller; Published: 17-Jan-2003; LatestRevisionDate: 13-Apr-2006; LatestRevisionNote: IPC-7351 Footprint Added.; DatasheetVersion: 10-Jan-1997; PackageVersion: 2001; PackageReference: 779-02; Publisher: Altium Limited; PackageDescription: 68-Pin Leaded Chip Carrier 1.27 mm Pitch; ComponentLink1Description: Manufacturer Link; ComponentLink1URL: http://www.freescale.com/
footprint 779-02_N (Leaded Chip Carrier, 68-Leads, Body 24.2x24.2mm, Pitch 1.27mm, IPC Medium Density)
footprint 779-02_L (Leaded Chip Carrier, 68-Leads, Body 24.2x24.2mm, Pitch 1.27mm, IPC High Density)
footprint 779-02_M (Leaded Chip Carrier, 68-Leads, Body 24.2x24.2mm, Pitch 1.27mm, IPC Low Density)
3D model MC68HC11-779-02 (68-Pin Leaded Chip Carrier 1.27 mm Pitch)
pins: 1 VSS (power), 2 MODB/VSTBY (in), 3 MODA/~{LIR} (io), 4 E (out), 5 R/~{W} (io), 6 EXTAL, 7 XTAL, 8 4XOUT (out), 9 PC0/DATA0 (io), 10 PC1/DATA1 (io), 11 PC2/DATA2 (io), 12 PC3/DATA3 (io), 13 PC4/DATA4 (io), 14 PC5/DATA5 (io), 15 PC6/DATA6 (io), 16 PC7/DATA7 (io), 17 ~{RESET} (io), 18 ~{XIRQ} (in), 19 ~{IRQ} (in), 20 PG7/~{CSPROG} (io), 21 PG6/CSGEN (io), 22 PG5/CSIO1 (io), 23 PG4/CSIO2 (io), 24 PG3 (io), 25 PG2 (io), 26 PG1 (io), 27 PG0 (io), 28 PD0/RXD (io), 29 PD1/TXD (io), 30 PD2/MISO (io), 31 PD3/MOSI (io), 32 PD4/SCK (io), 33 PD5/~{SS} (io), 34 VDD (power), 35 PA7/PAI/OC1 (io), 36 PA6/OC2/OC1 (io), 37 PA5/OC3/OC1 (io), 38 PA4/OC4/OC1 (io), 39 PA3/OC5/IC4/OC1 (io), 40 PA2/IC1 (io), 41 PA1/IC2 (io), 42 PA0/IC3 (io), 43 PB7/ADDR15 (out), 44 PB6/ADDR14 (out), 45 PB5/ADDR13 (out), 46 PB4/ADDR12 (out), 47 PB3/ADDR11 (out), 48 PB2/ADDR10 (out), 49 PB1/ADDR9 (out), 50 PB0/ADDR8 (out), 51 PF7/ADDR7 (out), 52 PF6/ADDR6 (out), 53 PF5/ADDR5 (out), 54 PF4/ADDR4 (out), 55 PF3/ADDR3 (out), 56 PF2/ADDR2 (out), 57 PF1/ADDR1 (out), 58 PF0/ADDR0 (out), 59 PE0/AN0 (in), 60 PE4/AN4 (in), 61 PE1/AN1 (in), 62 PE5/AN5 (in), 63 PE2/AN2 (in), 64 PE6/AN6 (in), 65 PE3/AN3 (in), 66 PE7/AN7 (in), 67 VRL (in), 68 VRH (in)

## MC68HC11F1VPU2
designator U?
8-Bit Microcontroller; Published: 17-Jan-2003; LatestRevisionDate: 13-Apr-2006; LatestRevisionNote: IPC-7351 Footprint Added.; DatasheetVersion: 10-Jan-1997; PackageVersion: 2000; PackageReference: 841B; Publisher: Altium Limited; PackageDescription: 80-Pin Plastic Quad Flat Pack 0.65 mm Pitch; Code_IPC: QFP65P1720X1720-80; ComponentLink1Description: Manufacturer Link; ComponentLink1URL: http://www.freescale.com/
footprint 841B_N (QFP, 80-Leads, Body 14 x 14mm, Pitch 0.65mm, IPC Medium Density)
footprint 841B_L (QFP, 80-Leads, Body 14 x 14mm, Pitch 0.65mm, IPC High Density)
footprint 841B_M (QFP, 80-Leads, Body 14 x 14mm, Pitch 0.65mm, IPC Low Density)
3D model MC68HC11-841B (80-Pin Plastic Quad Flat Pack 0.65 mm Pitch)
pins: 1 NC, 2 NC, 3 PB6/ADDR14 (out), 4 PB5/ADDR13 (out), 5 PB4/ADDR12 (out), 6 PB3/ADDR11 (out), 7 PB2/ADDR10 (out), 8 PB1/ADDR9 (out), 9 PB0/ADDR8 (out), 10 PF7/ADDR7 (out), 11 PF6/ADDR6 (out), 12 PF5/ADDR5 (out), 13 PF4/ADDR4 (out), 14 PF3/ADDR3 (out), 15 PF2/ADDR2 (out), 16 PF1/ADDR1 (out), 17 PF0/ADDR0 (out), 18 PE0/AN0 (in), 19 PE4/AN4 (in), 20 NC, 21 NC, 22 NC, 23 PE1/AN1 (in), 24 PE5/AN5 (in), 25 PE2/AN2 (in), 26 PE6/AN6 (in), 27 PE3/AN3 (in), 28 PE7/AN7 (in), 29 VRL (in), 30 VRH (in), 31 VSS (power), 32 MODB/VSTBY (in), 33 MODA/~{LIR} (io), 34 E (out), 35 R/~{W} (io), 36 EXTAL, 37 XTAL, 38 NC, 39 4XOUT (out), 40 PC0/DATA0 (io), 41 NC, 42 NC, 43 PC1/DATA1 (io), 44 PC2/DATA2 (io), 45 PC3/DATA3 (io), 46 PC4/DATA4 (io), 47 PC5/DATA5 (io), 48 PC6/DATA6 (io), 49 PC7/DATA7 (io), 50 ~{RESET} (io), 51 ~{XIRQ} (in), 52 ~{IRQ} (in), 53 PG7/~{CSPROG} (io), 54 PG6/CSGEN (io), 55 PG5/CSIO1 (io), 56 PG4/CSIO2 (io), 57 PG3 (io), 58 PG2 (io), 59 PG1 (io), 60 NC, 61 NC, 62 PG0 (io), 63 PD0/RXD (io), 64 PD1/TXD (io), 65 PD2/MISO (io), 66 PD3/MOSI (io), 67 PD4/SCK (io), 68 PD5/~{SS} (io), 69 VDD (power), 70 PA7/PAI/OC1 (io), 71 PA6/OC2/OC1 (io), 72 PA5/OC3/OC1 (io), 73 PA4/OC4/OC1 (io), 74 PA3/OC5/IC4/OC1 (io), 75 PA2/IC1 (io), 76 PA1/IC2 (io), 77 PA0/IC3 (io), 78 PB7/ADDR15 (out), 79 NC, 80 NC

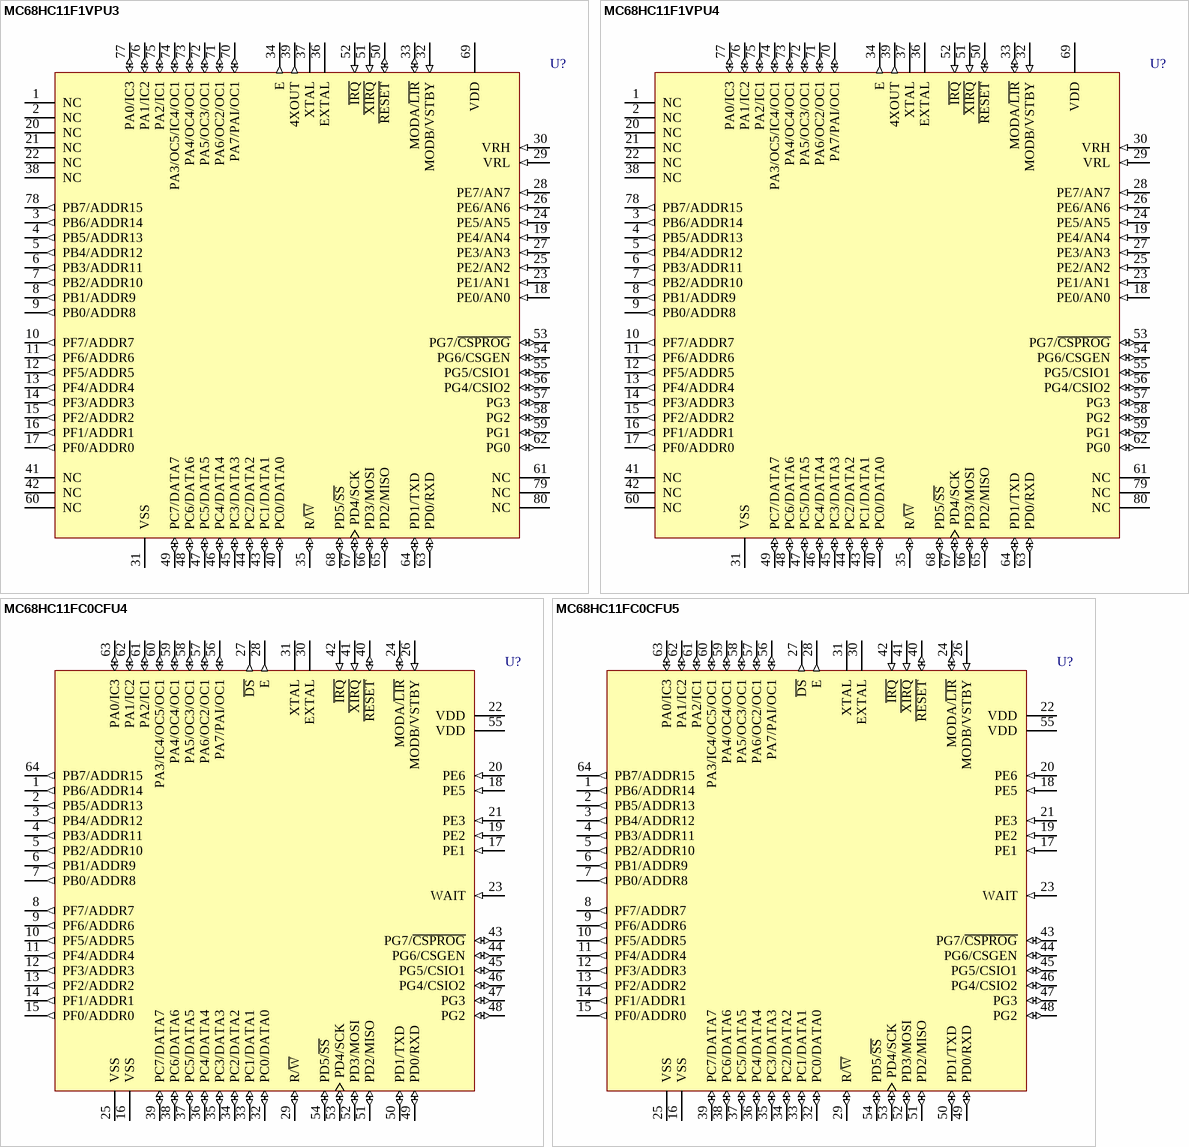
[diagram p34: symbols MC68HC11F1VPU3 to MC68HC11FC0CFU5]

## MC68HC11F1VPU3
designator U?
8-Bit Microcontroller; Published: 17-Jan-2003; LatestRevisionDate: 13-Apr-2006; LatestRevisionNote: IPC-7351 Footprint Added.; DatasheetVersion: 10-Jan-1997; PackageVersion: 2000; PackageReference: 841B; Publisher: Altium Limited; PackageDescription: 80-Pin Plastic Quad Flat Pack 0.65 mm Pitch; Code_IPC: QFP65P1720X1720-80; ComponentLink1Description: Manufacturer Link; ComponentLink1URL: http://www.freescale.com/
footprint 841B_N (QFP, 80-Leads, Body 14 x 14mm, Pitch 0.65mm, IPC Medium Density)
footprint 841B_L (QFP, 80-Leads, Body 14 x 14mm, Pitch 0.65mm, IPC High Density)
footprint 841B_M (QFP, 80-Leads, Body 14 x 14mm, Pitch 0.65mm, IPC Low Density)
3D model MC68HC11-841B (80-Pin Plastic Quad Flat Pack 0.65 mm Pitch)
pins: 1 NC, 2 NC, 3 PB6/ADDR14 (out), 4 PB5/ADDR13 (out), 5 PB4/ADDR12 (out), 6 PB3/ADDR11 (out), 7 PB2/ADDR10 (out), 8 PB1/ADDR9 (out), 9 PB0/ADDR8 (out), 10 PF7/ADDR7 (out), 11 PF6/ADDR6 (out), 12 PF5/ADDR5 (out), 13 PF4/ADDR4 (out), 14 PF3/ADDR3 (out), 15 PF2/ADDR2 (out), 16 PF1/ADDR1 (out), 17 PF0/ADDR0 (out), 18 PE0/AN0 (in), 19 PE4/AN4 (in), 20 NC, 21 NC, 22 NC, 23 PE1/AN1 (in), 24 PE5/AN5 (in), 25 PE2/AN2 (in), 26 PE6/AN6 (in), 27 PE3/AN3 (in), 28 PE7/AN7 (in), 29 VRL (in), 30 VRH (in), 31 VSS (power), 32 MODB/VSTBY (in), 33 MODA/~{LIR} (io), 34 E (out), 35 R/~{W} (io), 36 EXTAL, 37 XTAL, 38 NC, 39 4XOUT (out), 40 PC0/DATA0 (io), 41 NC, 42 NC, 43 PC1/DATA1 (io), 44 PC2/DATA2 (io), 45 PC3/DATA3 (io), 46 PC4/DATA4 (io), 47 PC5/DATA5 (io), 48 PC6/DATA6 (io), 49 PC7/DATA7 (io), 50 ~{RESET} (io), 51 ~{XIRQ} (in), 52 ~{IRQ} (in), 53 PG7/~{CSPROG} (io), 54 PG6/CSGEN (io), 55 PG5/CSIO1 (io), 56 PG4/CSIO2 (io), 57 PG3 (io), 58 PG2 (io), 59 PG1 (io), 60 NC, 61 NC, 62 PG0 (io), 63 PD0/RXD (io), 64 PD1/TXD (io), 65 PD2/MISO (io), 66 PD3/MOSI (io), 67 PD4/SCK (io), 68 PD5/~{SS} (io), 69 VDD (power), 70 PA7/PAI/OC1 (io), 71 PA6/OC2/OC1 (io), 72 PA5/OC3/OC1 (io), 73 PA4/OC4/OC1 (io), 74 PA3/OC5/IC4/OC1 (io), 75 PA2/IC1 (io), 76 PA1/IC2 (io), 77 PA0/IC3 (io), 78 PB7/ADDR15 (out), 79 NC, 80 NC

## MC68HC11F1VPU4
designator U?
8-Bit Microcontroller; Published: 17-Jan-2003; LatestRevisionDate: 13-Apr-2006; LatestRevisionNote: IPC-7351 Footprint Added.; DatasheetVersion: 10-Jan-1997; PackageVersion: 2000; PackageReference: 841B; Publisher: Altium Limited; PackageDescription: 80-Pin Plastic Quad Flat Pack 0.65 mm Pitch; Code_IPC: QFP65P1720X1720-80; ComponentLink1Description: Manufacturer Link; ComponentLink1URL: http://www.freescale.com/
footprint 841B_N (QFP, 80-Leads, Body 14 x 14mm, Pitch 0.65mm, IPC Medium Density)
footprint 841B_L (QFP, 80-Leads, Body 14 x 14mm, Pitch 0.65mm, IPC High Density)
footprint 841B_M (QFP, 80-Leads, Body 14 x 14mm, Pitch 0.65mm, IPC Low Density)
3D model MC68HC11-841B (80-Pin Plastic Quad Flat Pack 0.65 mm Pitch)
pins: 1 NC, 2 NC, 3 PB6/ADDR14 (out), 4 PB5/ADDR13 (out), 5 PB4/ADDR12 (out), 6 PB3/ADDR11 (out), 7 PB2/ADDR10 (out), 8 PB1/ADDR9 (out), 9 PB0/ADDR8 (out), 10 PF7/ADDR7 (out), 11 PF6/ADDR6 (out), 12 PF5/ADDR5 (out), 13 PF4/ADDR4 (out), 14 PF3/ADDR3 (out), 15 PF2/ADDR2 (out), 16 PF1/ADDR1 (out), 17 PF0/ADDR0 (out), 18 PE0/AN0 (in), 19 PE4/AN4 (in), 20 NC, 21 NC, 22 NC, 23 PE1/AN1 (in), 24 PE5/AN5 (in), 25 PE2/AN2 (in), 26 PE6/AN6 (in), 27 PE3/AN3 (in), 28 PE7/AN7 (in), 29 VRL (in), 30 VRH (in), 31 VSS (power), 32 MODB/VSTBY (in), 33 MODA/~{LIR} (io), 34 E (out), 35 R/~{W} (io), 36 EXTAL, 37 XTAL, 38 NC, 39 4XOUT (out), 40 PC0/DATA0 (io), 41 NC, 42 NC, 43 PC1/DATA1 (io), 44 PC2/DATA2 (io), 45 PC3/DATA3 (io), 46 PC4/DATA4 (io), 47 PC5/DATA5 (io), 48 PC6/DATA6 (io), 49 PC7/DATA7 (io), 50 ~{RESET} (io), 51 ~{XIRQ} (in), 52 ~{IRQ} (in), 53 PG7/~{CSPROG} (io), 54 PG6/CSGEN (io), 55 PG5/CSIO1 (io), 56 PG4/CSIO2 (io), 57 PG3 (io), 58 PG2 (io), 59 PG1 (io), 60 NC, 61 NC, 62 PG0 (io), 63 PD0/RXD (io), 64 PD1/TXD (io), 65 PD2/MISO (io), 66 PD3/MOSI (io), 67 PD4/SCK (io), 68 PD5/~{SS} (io), 69 VDD (power), 70 PA7/PAI/OC1 (io), 71 PA6/OC2/OC1 (io), 72 PA5/OC3/OC1 (io), 73 PA4/OC4/OC1 (io), 74 PA3/OC5/IC4/OC1 (io), 75 PA2/IC1 (io), 76 PA1/IC2 (io), 77 PA0/IC3 (io), 78 PB7/ADDR15 (out), 79 NC, 80 NC

## MC68HC11FC0CFU4
designator U?
8-Bit Microcontroller; Published: 17-Jan-2003; LatestRevisionDate: 13-Apr-2006; LatestRevisionNote: IPC-7351 Footprint Added.; DatasheetVersion: 10-Jan-1997; PackageVersion: rev4, Jul-2002; PackageReference: 840C; Publisher: Altium Limited; PackageDescription: 64-Pin Quad Flat Pack 0.8 mm Pitch; ComponentLink1Description: Manufacturer Link; ComponentLink1URL: http://www.freescale.com/
footprint 840C_N (QFP, 64-Leads, Body 14x14mm, Pitch 0.8mm, IPC Medium Density)
footprint 840C_L (QFP, 64-Leads, Body 14x14mm, Pitch 0.8mm, IPC High Density)
footprint 840C_M (QFP, 64-Leads, Body 14x14mm, Pitch 0.8mm, IPC Low Density)
3D model MC68HC11-840C (64-Pin Quad Flat Pack 0.8 mm Pitch)
pins: 1 PB6/ADDR14 (out), 2 PB5/ADDR13 (out), 3 PB4/ADDR12 (out), 4 PB3/ADDR11 (out), 5 PB2/ADDR10 (out), 6 PB1/ADDR9 (out), 7 PB0/ADDR8 (out), 8 PF7/ADDR7 (out), 9 PF6/ADDR6 (out), 10 PF5/ADDR5 (out), 11 PF4/ADDR4 (out), 12 PF3/ADDR3 (out), 13 PF2/ADDR2 (out), 14 PF1/ADDR1 (out), 15 PF0/ADDR0 (out), 16 VSS (power), 17 PE1 (in), 18 PE5 (in), 19 PE2 (in), 20 PE6 (in), 21 PE3 (in), 22 VDD (power), 23 WAIT (in), 24 MODA/~{LIR} (io), 25 VSS (power), 26 MODB/VSTBY (in), 27 ~{DS} (out), 28 E (out), 29 R/~{W} (io), 30 EXTAL, 31 XTAL, 32 PC0/DATA0 (io), 33 PC1/DATA1 (io), 34 PC2/DATA2 (io), 35 PC3/DATA3 (io), 36 PC4/DATA4 (io), 37 PC5/DATA5 (io), 38 PC6/DATA6 (io), 39 PC7/DATA7 (io), 40 ~{RESET} (io), 41 ~{XIRQ} (in), 42 ~{IRQ} (in), 43 PG7/~{CSPROG} (io), 44 PG6/CSGEN (io), 45 PG5/CSIO1 (io), 46 PG4/CSIO2 (io), 47 PG3 (io), 48 PG2 (io), 49 PD0/RXD (io), 50 PD1/TXD (io), 51 PD2/MISO (io), 52 PD3/MOSI (io), 53 PD4/SCK (io), 54 PD5/~{SS} (io), 55 VDD (power), 56 PA7/PAI/OC1 (io), 57 PA6/OC2/OC1 (io), 58 PA5/OC3/OC1 (io), 59 PA4/OC4/OC1 (io), 60 PA3/IC4/OC5/OC1 (io), 61 PA2/IC1 (io), 62 PA1/IC2 (io), 63 PA0/IC3 (io), 64 PB7/ADDR15 (out)

## MC68HC11FC0CFU5
designator U?
8-Bit Microcontroller; Published: 17-Jan-2003; LatestRevisionDate: 13-Apr-2006; LatestRevisionNote: IPC-7351 Footprint Added.; DatasheetVersion: 10-Jan-1997; PackageVersion: rev4, Jul-2002; PackageReference: 840C; Publisher: Altium Limited; PackageDescription: 64-Pin Quad Flat Pack 0.8 mm Pitch; ComponentLink1Description: Manufacturer Link; ComponentLink1URL: http://www.freescale.com/
footprint 840C_N (QFP, 64-Leads, Body 14x14mm, Pitch 0.8mm, IPC Medium Density)
footprint 840C_L (QFP, 64-Leads, Body 14x14mm, Pitch 0.8mm, IPC High Density)
footprint 840C_M (QFP, 64-Leads, Body 14x14mm, Pitch 0.8mm, IPC Low Density)
3D model MC68HC11-840C (64-Pin Quad Flat Pack 0.8 mm Pitch)
pins: 1 PB6/ADDR14 (out), 2 PB5/ADDR13 (out), 3 PB4/ADDR12 (out), 4 PB3/ADDR11 (out), 5 PB2/ADDR10 (out), 6 PB1/ADDR9 (out), 7 PB0/ADDR8 (out), 8 PF7/ADDR7 (out), 9 PF6/ADDR6 (out), 10 PF5/ADDR5 (out), 11 PF4/ADDR4 (out), 12 PF3/ADDR3 (out), 13 PF2/ADDR2 (out), 14 PF1/ADDR1 (out), 15 PF0/ADDR0 (out), 16 VSS (power), 17 PE1 (in), 18 PE5 (in), 19 PE2 (in), 20 PE6 (in), 21 PE3 (in), 22 VDD (power), 23 WAIT (in), 24 MODA/~{LIR} (io), 25 VSS (power), 26 MODB/VSTBY (in), 27 ~{DS} (out), 28 E (out), 29 R/~{W} (io), 30 EXTAL, 31 XTAL, 32 PC0/DATA0 (io), 33 PC1/DATA1 (io), 34 PC2/DATA2 (io), 35 PC3/DATA3 (io), 36 PC4/DATA4 (io), 37 PC5/DATA5 (io), 38 PC6/DATA6 (io), 39 PC7/DATA7 (io), 40 ~{RESET} (io), 41 ~{XIRQ} (in), 42 ~{IRQ} (in), 43 PG7/~{CSPROG} (io), 44 PG6/CSGEN (io), 45 PG5/CSIO1 (io), 46 PG4/CSIO2 (io), 47 PG3 (io), 48 PG2 (io), 49 PD0/RXD (io), 50 PD1/TXD (io), 51 PD2/MISO (io), 52 PD3/MOSI (io), 53 PD4/SCK (io), 54 PD5/~{SS} (io), 55 VDD (power), 56 PA7/PAI/OC1 (io), 57 PA6/OC2/OC1 (io), 58 PA5/OC3/OC1 (io), 59 PA4/OC4/OC1 (io), 60 PA3/IC4/OC5/OC1 (io), 61 PA2/IC1 (io), 62 PA1/IC2 (io), 63 PA0/IC3 (io), 64 PB7/ADDR15 (out)

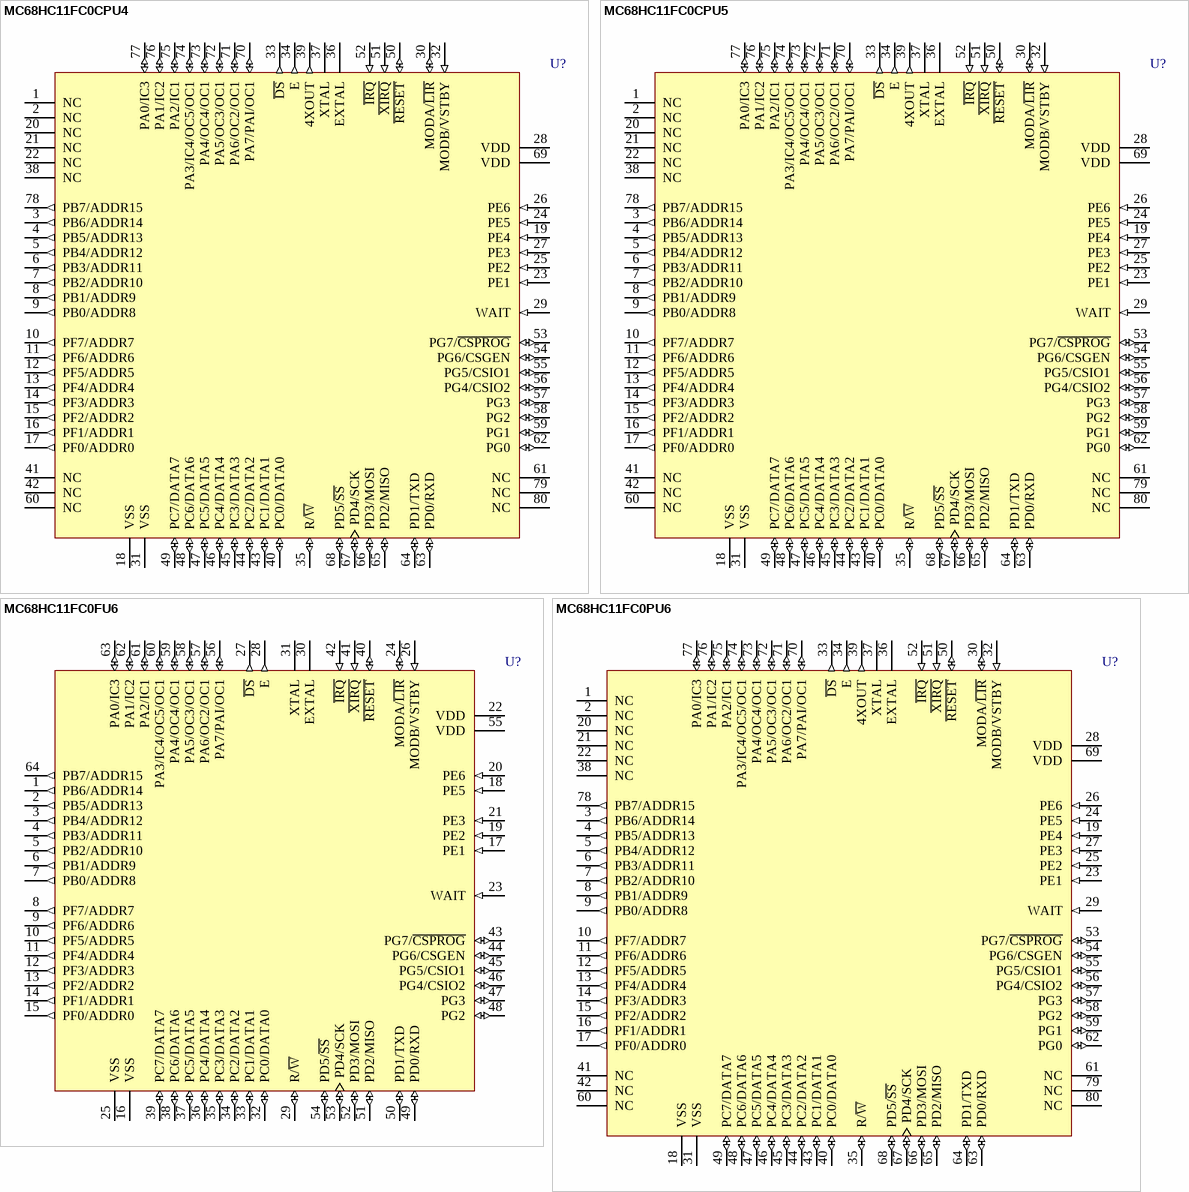
[diagram p35: symbols MC68HC11FC0CPU4 to MC68HC11FC0PU6]